# Altium schematic symbol library RPSLib_Connectors.SchLib: 97 symbols (part 2 of 2)
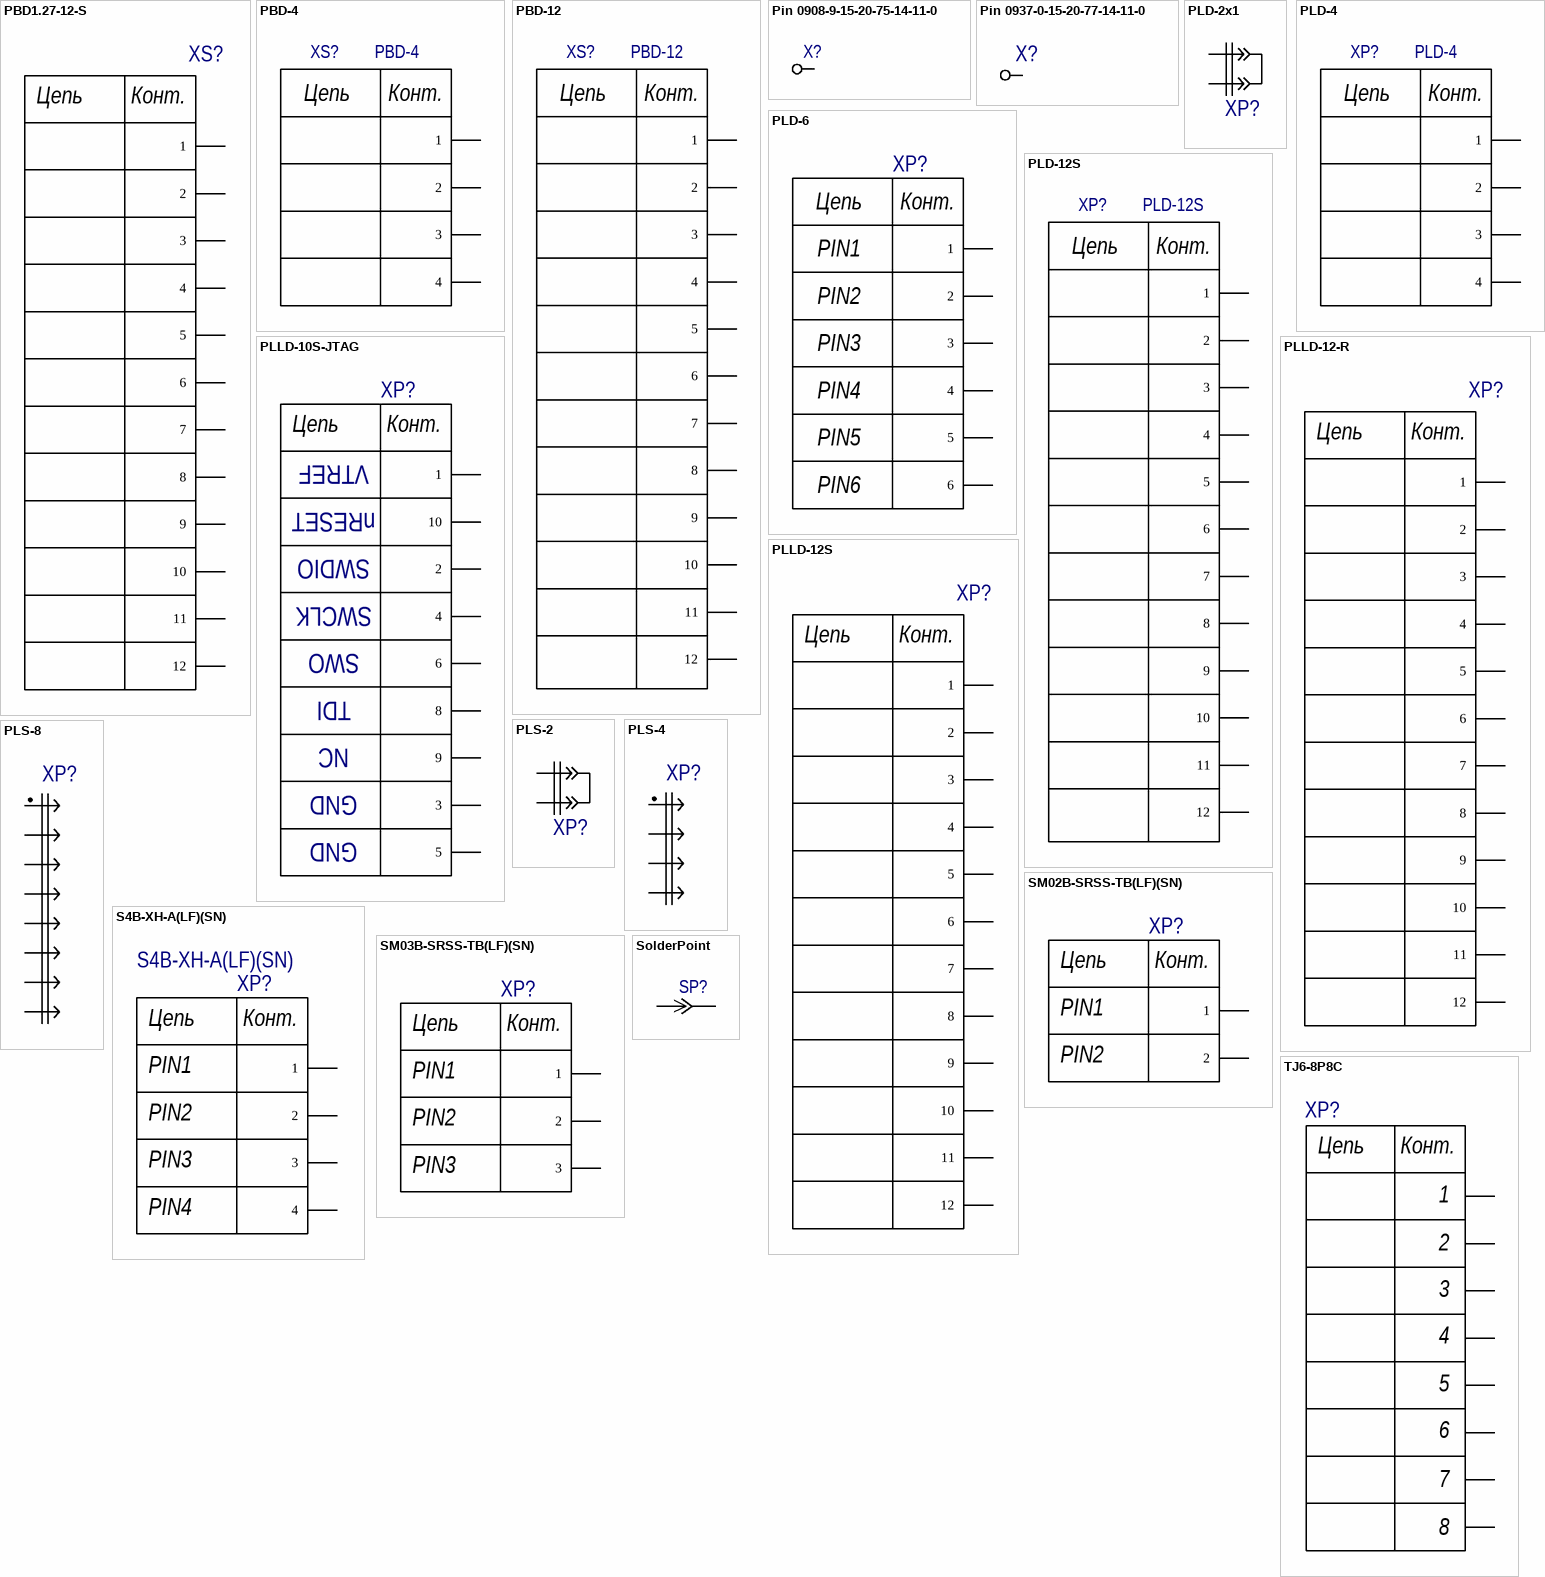
[diagram p9: symbols PBD1.27-12-S to TJ6-8P8C]

## PBD-12
designator XS?
Розетка двухрядная прямые (гнездо) на плату для монтажа в отверстия, 12 контактов шаг 2,54x2,54 мм; Manufacturer Part Number: 2214S-12G-85
footprint PBD-12 (Розетка двухрядная)
pins: 1, 2, 3, 4, 5, 6, 7, 8, 9, 10, 11, 12
text: Цепь; Конт.

## Pin 0908-9-15-20-75-14-11-0
designator X?, comment 0908-9-15-20-75-14-11-0  (value not drawn)
CONTACT SPRING LOADED T/H GOLD; Manufacturer: Mill-Max; Current Rating: 2A; Supplier 1: Digi-Key; Manufacturer Part Number: 0908-9-15-20-75-14-11-0; RoHS: Yes; Category: Connectors; Stock 1: 7880; Pricing 1: 1=0,75000, 10=0,69900, 25=0,62920, 50=0,55940, 100=0,53610, 250=0,48952, 500=0,46620, 1000=0,38462, 2500=0,34965 (USD); Mount: Through Hole; Contact Material: Brass; Material: Copper Alloy; Plating: Gold; Packaging: Bulk; Package Quantity: 500; Length: 0.43inch; Height: 0.43inch; Lead Free: Contains Lead; REACH SVHC: No SVHC; ComponentLink1URL: https://datasheet.ciiva.com/5160/0908-9-15-20-75-14-11-0-25951-5160756.pdf?src-supplier=Mouser; ComponentLink1Description: https://datasheet.ciiva.com/5160/0908-9-15-20-75-14-11-0-25951-5160756.pdf?src-supplier=Mouser; ComponentLink2URL: https://datasheet.ciiva.com/1351/1734701-1351212.pdf?src-supplier=Element14; ComponentLink2Description: https://datasheet.ciiva.com/1351/1734701-1351212.pdf?src-supplier=Element14; Supplier Part Number 1: ED90392-ND
footprint Mill Max 0908-X-15-50 (Mill Max Long stroke, Hole mount)
pins: 1

## Pin 0937-0-15-20-77-14-11-0
designator X?, comment Mill Max Spring loaded  (value not drawn)
Manufacturer: Mill-Max; Manufacturer Part Number: 0937-0-15-20-77-14-11-0; РКД Наименование: 0937-0-15-20-77-14-11-0 - Пружинный контакт; Supplier 1: Digi-Key; Stock 1: 716; Pricing 1: 1=0.96, 10=0.845, 25=0.7948, 50=0.7618, 100=0.7286, 250=0.6624, 500=0.59616, 1000=0.52992, 2500=0.48024 (USD); Supplier Part Number 1: ED10176-ND
footprint Mill Max 0937 (Mill Max Long stroke, Surface mount)
pins: 1

## PLD-2x1
designator XP?, comment Jumper  (value not drawn)
Jumper 2x1 pins, PLD2x1; Manufacturer: China; Manufacturer Part Number: *; Supplier 1: *; Supplier Part Number 1: *
footprint PLD 2X1
pins: 1, 2

## PLD-4
designator XP?
Вилка открытые прямые двухрядные на плату для поверхностного (SMD) монтажа, 4 контакта шаг 2,54x2,54 мм; Manufacturer Part Number: 2213SM-04G-6036
footprint PLD-4S (Footprint not found)
pins: 1, 2, 3, 4
text: Цепь; Конт.

## PLD-6
designator XP?  (value not drawn)
footprint PLD 2X3
pins: 1, 2, 3, 4, 5, 6
text: Цепь; Конт.; PIN1; PIN2; PIN3; PIN4; PIN5; PIN6

## PLD-12S
designator XP?
Вилка открытые прямые двухрядные на плату для поверхностного (SMD) монтажа, 12 контактов шаг 2,54x2,54 мм; Manufacturer Part Number: 2213SM-12G-6036
footprint PLD-12S (2.54 мм разъем SMD)
pins: 1, 2, 3, 4, 5, 6, 7, 8, 9, 10, 11, 12
text: Цепь; Конт.

## PLLD-10S-JTAG
designator XP?
2x5 штырьков 1,27 мм, SMD, 9-pin JTAG; Manufacturer: *; Manufacturer Part Number: *; Supplier 1: *; Supplier Part Number 1: *
footprint PLLD-10S-JTAG
pins: 1, 2, 3, 4, 5, 6, 8, 9, 10
text: Цепь; Конт.; VTREF; nRESET; SWDIO; SWCLK; SWO; TDI; NC; GND

## PLLD-12-R
designator XP?
2x6 штырьков 1,27 мм правые; Manufacturer: *; Manufacturer Part Number: *; Supplier 1: *; Supplier Part Number 1: *
footprint PLLD-12-R
pins: 1, 2, 3, 4, 5, 6, 7, 8, 9, 10, 11, 12
text: Цепь; Конт.

## PLLD-12S
designator XP?
2x6 штырьков 1,27 мм, SMD; Manufacturer: *; Manufacturer Part Number: *; Supplier 1: *; Supplier Part Number 1: *
footprint PLLD-12S
pins: 1, 2, 3, 4, 5, 6, 7, 8, 9, 10, 11, 12
text: Цепь; Конт.

## PLS-2
designator XP?, comment Jumper  (value not drawn)
Jumper 2x1 pins, PLS-2; Manufacturer: China; Manufacturer Part Number: PLS-02; Supplier 1: *; Supplier Part Number 1: *
footprint PLD 2X1
pins: 1, 2

## PLS-4
designator XP?  (value not drawn)
4 прямых штырька 2,54 мм; Manufacturer: China; Manufacturer Part Number: PLS-04; Supplier 1: *; Supplier Part Number 1: *
footprint PLD 4X1 (1x4 Male Header Through Hole Pitch 2.54 mm)
pins: 1, 2, 3, 4

## PLS-8
designator XP?  (value not drawn)
8 прямых штырьков 2,54 мм; Manufacturer: China; Manufacturer Part Number: PLS-08; Supplier 1: *; Supplier Part Number 1: *
footprint PLD 8X1 (1x8 Male Header Through Hole Pitch 2.54 mm)
pins: 1, 2, 3, 4, 5, 6, 7, 8

## S4B-XH-A(LF)(SN)
designator XP?
CONN HEADER R/A 4POS 2.5MM; Manufacturer: JST; Current Rating: 3A; Voltage Rating: 250V; Contact Resistance: 20mR; Number of Positions: 4; Insulation Resistance: 1GR; Gender: Male; Connector Type: Male Pin; Wire/Cable Gauge: 22AWG; Supplier 1: Digi-Key; Manufacturer Part Number: S4B-XH-A(LF)(SN); RoHS: Yes; Category: Headers and Wire Housings; Stock 1: 9755; Pricing 1: 1=0,27000, 10=0,25700, 100=0,17850, 500=0,15100, 1000=0,12355, 5000=0,10982, 10000=0,09953 (USD); Mount: Through Hole; Contact Material: Brass; Color: Natural; Contact Plating: Tin,Lead,Copper; Housing Color: White; Housing Material: Polyamide; Min Operating Temperature: -25°C; Max Operating Temperature: 85°C; Package Quantity: 500; Number of Rows: 1; Packaging: Bulk; Voltage Rating (AC): 250V; Max Current Rating: 3A; Termination: Press-Fit; Number of Contacts: 4; Max Voltage Rating (AC): 250V; Orientation: Right Angle; Length: 12.4mm; Pitch: 2.5mm; Lead Pitch: 2.5mm; Depth: 11.5mm; REACH SVHC: No SVHC; Lead Free: Lead Free; ComponentLink1URL: https://datasheet.ciiva.com/726/exh-726400.pdf?src-supplier=Digi-Key; ComponentLink1Description: https://datasheet.ciiva.com/726/exh-726400.pdf?src-supplier=Digi-Key; ComponentLink2URL: https://datasheet.ciiva.com/26924/getdatasheetpartid-449045-26924078.pdf?src-supplier=Verical; ComponentLink2Description: https://datasheet.ciiva.com/26924/getdatasheetpartid-449045-26924078.pdf?src-supplier=Verical; ComponentLink3URL: https://datasheet.ciiva.com/8052/5448-8052236.pdf?src-supplier=Element14; ComponentLink3Description: https://datasheet.ciiva.com/8052/5448-8052236.pdf?src-supplier=Element14; Supplier Part Number 1: 455-2243-ND
pins: 1, 2, 3, 4
text: Цепь; Конт.; PIN1; PIN2; PIN3; PIN4

## SM02B-SRSS-TB(LF)(SN)
designator XP?  (value not drawn)
CONN HEADER SMD R/A 2POS 1MM; Manufacturer: JST; Number of Contacts: 2; Current Rating: 1A; Connector Type: Male Pin; Contact Resistance: 40mR; Voltage Rating (AC): 50V; Insulation Resistance: 100MR; Pitch: 0.039inch; ComponentLink1URL: https://datasheet.ciiva.com/26924/getdatasheetpartid-640850-26924055.pdf?src-supplier=Verical; ComponentLink1Description: https://datasheet.ciiva.com/26924/getdatasheetpartid-640850-26924055.pdf?src-supplier=Verical; ComponentLink2URL: https://datasheet.ciiva.com/712/esr-712467.pdf?src-supplier=Digi-Key; ComponentLink2Description: https://datasheet.ciiva.com/712/esr-712467.pdf?src-supplier=Digi-Key; ComponentLink3URL: https://datasheet.ciiva.com/712/esr-712468.pdf?src-supplier=Digi-Key; ComponentLink3Description: https://datasheet.ciiva.com/712/esr-712468.pdf?src-supplier=Digi-Key; ComponentLink4URL: https://datasheet.ciiva.com/730/esr-730600.pdf?src-supplier=Digi-Key; ComponentLink4Description: https://datasheet.ciiva.com/730/esr-730600.pdf?src-supplier=Digi-Key; ComponentLink5URL: https://datasheet.ciiva.com/8052/91630-8052284.pdf?src-supplier=Element14; ComponentLink5Description: https://datasheet.ciiva.com/8052/91630-8052284.pdf?src-supplier=Element14; ComponentLink6URL: https://datasheet.ciiva.com/16391/sm02b-srss-tblfsn-16391308.pdf?src-supplier=Future+Electronics; ComponentLink6Description: https://datasheet.ciiva.com/16391/sm02b-srss-tblfsn-16391308.pdf?src-supplier=Future+Electronics; Supplier 1: Digi-Key; Manufacturer Part Number: SM02B-SRSS-TB(LF)(SN); Stock 1: 130790; Pricing 1: 1=0,440000, 10=0,415000, 100=0,318500, 500=0,277000, 1000=0,228520 (USD); RoHS: Yes; Mount: Surface Mount; Contact Material: Copper Alloy,Copper; Color: Natural; Contact Plating: Tin,Copper,Lead; Housing Color: Beige; Housing Material: Polyamide; Material: Polyamide; Min Operating Temperature: -25°C; Max Operating Temperature: 85°C; Number of Rows: 1; Termination: Solder; Orientation: Right Angle; Packaging: Tape and Reel; Number of Positions: 2; Max Current Rating: 1A; Max Voltage Rating (AC): 50V; Length: 4mm; Lead Pitch: 1mm; Depth: 4.95mm; Lead Free: Lead Free; REACH SVHC: No SVHC; Flammability Rating: UL94 V-0; Supplier Part Number 1: 455-1802-1-ND
footprint SM02B-SRSS-TB(LF)(SN) (JST 1.0 mm pitch connector)
pins: 1, 2
text: Цепь; Конт.; PIN1; PIN2

## SM03B-SRSS-TB(LF)(SN)
designator XP?  (value not drawn)
JST (JAPAN SOLDERLESS TERMINALS) - SM03B-SRSS-TB(LF)(SN) - EMBASE COUDEE 3 VOIES; Number of Positions: 3; Connector Type: Male Pin; Current Rating: 1A; Contact Resistance: 40mR; Voltage Rating (AC): 50V; Insulation Resistance: 100MR; Gender: Male; Pitch: 0.039inch; Supplier 1: Digi-Key; Manufacturer: JST; Manufacturer Part Number: SM03B-SRSS-TB(LF)(SN); Stock 1: 141871; Pricing 1: 1=0,530000, 10=0,494000, 100=0,379000, 500=0,329600, 1000=0,271920 (USD); RoHS: Yes; Mount: Surface Mount; Contact Plating: Tin,Lead,Copper; Contact Material: Copper Alloy,Copper; Color: Natural; Housing Color: Beige; Housing Material: Polyamide; Material: Polyamide; Min Operating Temperature: -25°C; Max Operating Temperature: 85°C; Number of Rows: 1; Termination: Solder; Packaging: Tape and Reel; Number of Contacts: 3; Orientation: Right Angle; Max Current Rating: 1A; Max Voltage Rating (AC): 50V; Length: 5mm; Lead Pitch: 1mm; Depth: 4.95mm; Lead Free: Lead Free; REACH SVHC: No SVHC; Flammability Rating: UL94 V-0; ComponentLink1URL: https://datasheet.ciiva.com/26894/getdatasheetpartid-708885-26894671.pdf?src-supplier=Verical; ComponentLink1Description: https://datasheet.ciiva.com/26894/getdatasheetpartid-708885-26894671.pdf?src-supplier=Verical; ComponentLink2URL: https://datasheet.ciiva.com/16394/sm03b-srss-tblfsn-16394332.pdf?src-supplier=Future+Electronics; ComponentLink2Description: https://datasheet.ciiva.com/16394/sm03b-srss-tblfsn-16394332.pdf?src-supplier=Future+Electronics; ComponentLink3URL: https://datasheet.ciiva.com/8052/91630-8052263.pdf?src-supplier=Element14; ComponentLink3Description: https://datasheet.ciiva.com/8052/91630-8052263.pdf?src-supplier=Element14; Supplier Part Number 1: 455-1803-1-ND
footprint SM03B-SRSS-TB(LF)(SN) (JST 1.0 mm pitch connector)
pins: 1, 2, 3
text: Цепь; Конт.; PIN1; PIN2; PIN3

## SolderPoint
designator SP?  (value not drawn)  (no BOM)
footprint Solder Point (Перемычка паямая)
pins: 1, 2

## TJ6-8P8C
designator XP?  (value not drawn)
Ethernet connector TJ6-8P8C; Value: *; Name: TJ6-8P8C; PartNo: TJ6-8P8C
footprint TJ6-8P8C
pins: 1, 2, 3, 4, 5, 6, 7, 8, 9 hidden, 10 hidden
text: Цепь; Конт.

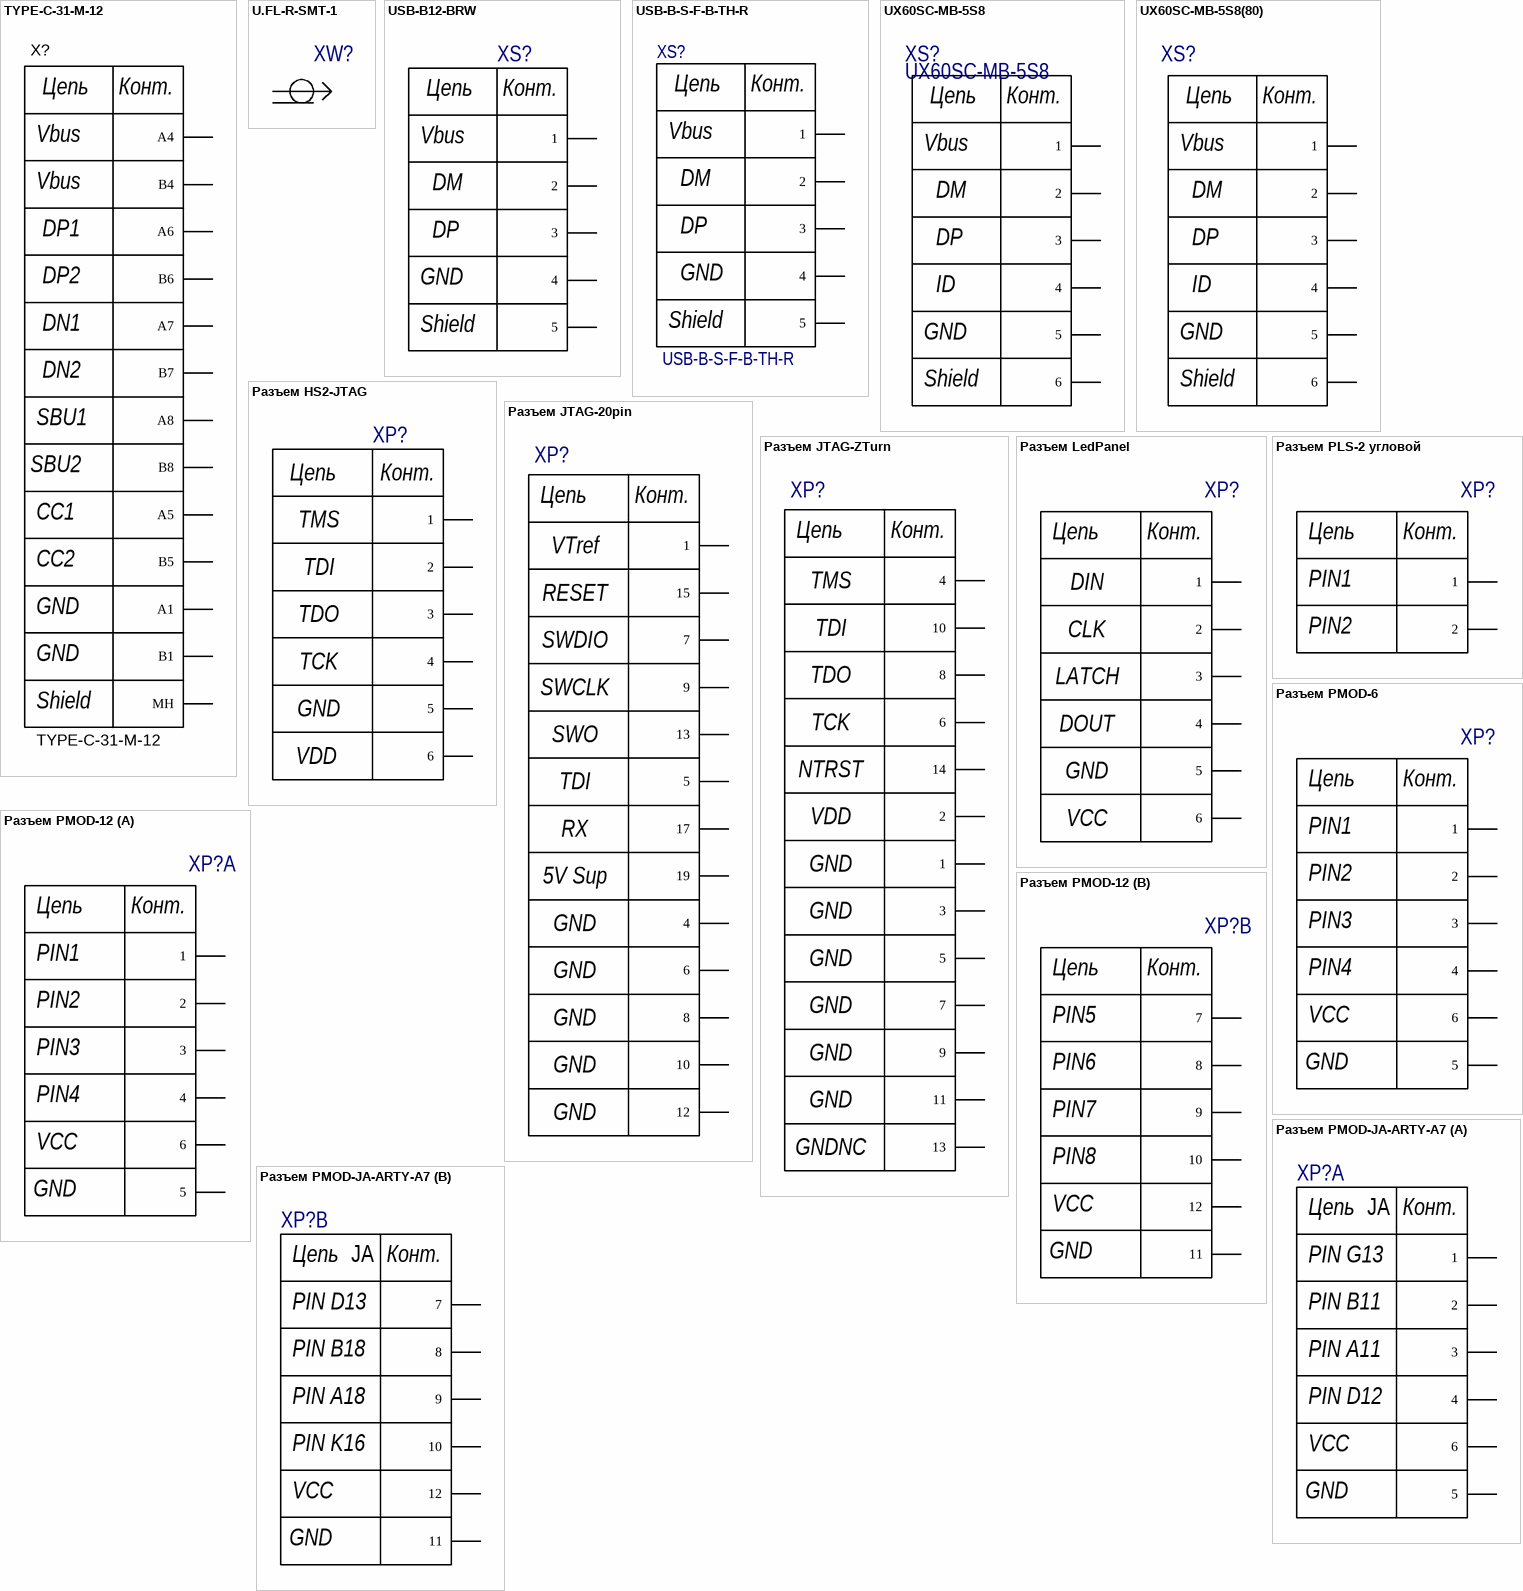
[diagram p3: symbols TYPE-C-31-M-12 to Разъем PMOD-JA-ARTY-A7]

## TYPE-C-31-M-12
designator X?
USB 3.1, Type C, 16 pins, 20V, 3A, -40...+85°C; Manufacturer: Korean Hroparts Elec; Manufacturer Part Number: TYPE-C-31-M-12; Package: Type C; HelpURL: https://www.lcsc.com/product-detail/USB-Connectors_Korean-Hroparts-Elec-TYPE-C-31-M-12_C165948.html
footprint TYPE-C-31-M-12 (USB)
pins: A1, A4, A5, A6, A7, A8, B1, B4, B5, B6, B7, B8, MH
text: Цепь; Конт.; Vbus; DP1; DP2; DN1; DN2; SBU1; SBU2; CC1; CC2; GND; Shield

## U.FL-R-SMT-1
designator XW?  (value not drawn)
CONN UMC JACK STR 50 OHM SMD; Manufacturer: Hirose; Manufacturer Part Number: U.FL-R-SMT-1(10); Body Plating: Silver; Body Material: Bronze; Dielectric Material: Polymer; Impedance: 50R; Connector Type: Coaxial,Male Pin,Receptacle; Frequency: 6GHz; Gender: Male; Wire/Cable Type: Coaxial; Insulation Resistance: 500MR; Supplier 1: Digi-Key; Stock 1: 677500; Pricing 1: 2500=0.5945 (USD); Mount: PCB,Surface Mount,Through Hole; Contact Material: Brass,Bronze; Contact Plating: Gold; Housing Colour: Beige; Min Operating Temperature: -40°C; Max Operating Temperature: 90°C; Packaging: Tape and Reel; Termination: Solder; Orientation: Straight; Package Quantity: 2500; Fastening Type: Snap; Max Frequency: 6GHz; Length: 3mm; Depth: 3.1mm; Radiation Hardening: No; Lead Free: Lead Free; REACH SVHC: No SVHC; Supplier Part Number 1: H11891TR-ND; РКД Наименование: *
footprint U.FL-R-SMT-1 (U.FL SMD connector)
pins: 1, 2
1 alternate drawing of the same symbol

## USB-B12-BRW
designator XS?  (value not drawn)
1.5A USB 2.0 1 260℃ Straight 4 Female -20℃~+70℃ Type-B Plugin,19.25x12.04x11mm USB Connectors ROHS; Manufacturer: XUNPU; Gender: Receptacle; Connector Type: Receptacle,USB; Number of Contacts: 4; Number of Ports: 1; Max Voltage Rating (AC): 30V; Current Rating: 1.8A; USB Standard: USB 2.0; Pitch: 0.65mm; Supplier 1: LCSC; Manufacturer Part Number: USB-B12-BRW; Stock 1: *; Pricing 1: *; Mount: Surface Mount,Through Hole,Vertical; Contact Material: Copper Alloy; Contact Plating: *; Colour: Black; Number of Terminals: 4; Housing Material: Thermoplastic; Min Operating Temperature: -30°C; Max Operating Temperature: 85°C; Package Quantity: 500; Termination: Solder; Orientation: Right Angle; Packaging: Tape and Reel; Voltage Rating (AC): 30V; Features: Shielded; Radiation Hardening: No; REACH SVHC: Unknown; Flammability Rating: UL94 V-0; Supplier Part Number 1: C720550; РКД Наименование: *
footprint USB-B12-BRW (USB-B Vertical connector)
pins: 1, 2, 3, 4, 5
text: Цепь; Конт.; Vbus; DM; DP; GND; Shield

## USB-B-S-F-B-TH-R
designator XS?
Conn USB F 4 POS 2.5mm Solder RA Thru-Hole 4 Terminal 1 Port Tray; Manufacturer: Samtec; Number of Terminals/Pins: 4; Gender: Receptacle; Number of Ports: 1; Max Voltage Rating (AC): 30V; Supplier 1: Digi-Key; Manufacturer Part Number: USB-B-S-F-B-TH-R; RoHS: Yes; Category: Connectors; Mount: Through Hole,Horizontal; Contact Material: Bronze; Contact Plating: Gold; Housing Material: Thermoplastic; Min Operating Temperature: -50°C; Max Operating Temperature: 85°C; Termination: Solder; Orientation: Right Angle; Packaging: Tray; Package Quantity: 1; Connector Type: USB; Number of Contacts: 4; Series: USB-B; Length: 14.9mm; Pitch: 2.5mm; Depth: 16.2mm; Radiation Hardening: No; Lead Free: Lead Free; RoHS Compliant: Yes; ComponentLink1URL: https://datasheet.ciiva.com/3095/usb-b-3095456.pdf?src-supplier=Avnet; ComponentLink1Description: https://datasheet.ciiva.com/3095/usb-b-3095456.pdf?src-supplier=Avnet; ComponentLink2URL: https://datasheet.ciiva.com/851/usb-b-851750.pdf?src-supplier=Digi-Key; ComponentLink2Description: https://datasheet.ciiva.com/851/usb-b-851750.pdf?src-supplier=Digi-Key; Supplier Part Number 1: USB-B-S-F-B-TH-R-ND
footprint Samtech USB-B
pins: 1, 2, 3, 4, 5
text: Цепь; Конт.; Vbus; DM; DP; GND; Shield

## UX60SC-MB-5S8
designator XS?
USB - mini B USB 2.0 Receptacle Connector 5 Position Surface Mount, Right Angle; Through Hole; Manufacturer: Hirose; Connector Type: USB,Receptacle; Number of Contacts: 5; Current Rating: 1A; Number of Ports: 1; Insulation Resistance: 100MR; Max Voltage Rating (AC): 5V; USB Standard: USB 2.0; Pitch: 0.8mm; Supplier 1: Digi-Key; Supplier Part Number 1: H11589CT-ND; Manufacturer Part Number: UX60SC-MB-5S8; Stock 1: 16038; Pricing 1: 1=1.05, 10=0.926, 25=0.8712, 50=0.835, 100=0.7986, 250=0.726, 500=0.6534 (USD); Mount: Surface Mount,Horizontal,Through Hole; Contact Material: Copper Alloy,Copper; Contact Plating: Gold; Number of Terminals: 5; Min Operating Temperature: -30°C; Max Operating Temperature: 75°C; Package Quantity: 1000; Packaging: Tape and Reel; Gender: Receptacle; Termination: Solder; Orientation: Right Angle; Number of Rows: 1; Max Current Rating: 1A; Number of Positions: 5; Length: 7.7mm; Depth: 7mm; REACH SVHC: No SVHC; Lead Free: Lead Free; ComponentLink1URL: http://www.farnell.com/datasheets/2043912.pdf?src-supplier=Element14; ComponentLink1Description: http://www.farnell.com/datasheets/2043912.pdf?src-supplier=Element14; ComponentLink2URL: http://www.mouser.com/ds/2/185/UX_catalog-939708.pdf?src-supplier=Mouser; ComponentLink2Description: http://www.mouser.com/ds/2/185/UX_catalog-939708.pdf?src-supplier=Mouser; ComponentLink3URL: https://www.verical.com/server-webapp/html/getDatasheet?partID=457316&src-supplier=Verical; ComponentLink3Description: https://www.verical.com/server-webapp/html/getDatasheet?partID=457316&src-supplier=Verical
pins: 1, 2, 3, 4, 5, 6
text: Цепь; Конт.; Vbus; DM; DP; ID; GND; Shield

## UX60SC-MB-5S8(80)
designator XS?  (value not drawn)
USB - mini B USB 2.0 Receptacle Connector 5 Position Surface Mount, Right Angle; Through Hole; Manufacturer: Hirose; Voltage Rating: 30V; Current Rating: 1A; Number of Contacts: 5; Supplier 1: Digi-Key; Supplier Part Number 1: H125762CT-ND; Manufacturer Part Number: UX60SC-MB-5S8(80); Stock 1: 4220; Pricing 1: 1=0.8, 10=0.701, 25=0.66, 50=0.6326, 100=0.605, 250=0.55, 500=0.495 (USD); Mount: Surface Mount,Horizontal,Through Hole; Contact Material: Copper Alloy; Min Operating Temperature: -30°C; Max Operating Temperature: 75°C; Package Quantity: 1000; Packaging: Tape and Reel; Gender: Receptacle; Connector Type: USB; Termination: Solder; Orientation: Right Angle; ComponentLink1URL: https://media.digikey.com/pdf/Data%20Sheets/Hirose%20PDFs/UX60S.pdf?src-supplier=Digi-Key; ComponentLink1Description: https://media.digikey.com/pdf/Data%20Sheets/Hirose%20PDFs/UX60S.pdf?src-supplier=Digi-Key
footprint UX60SC-MB-5S8(80)
pins: 1, 2, 3, 4, 5, 6
1 alternate drawing of the same symbol
text: Цепь; Конт.; Vbus; DM; DP; ID; GND; Shield

## Разъем HS2-JTAG
designator XP?
Digilent PMOD разъем. 1 ряд, 6 контактов; Manufacturer: *; Manufacturer Part Number: *
footprint PMOD-6 (Digilent PMOD connector 6 pin)
pins: 1, 2, 3, 4, 5, 6
text: Цепь; Конт.; TMS; TDI; TDO; TCK; GND; VDD

## Разъем JTAG-20pin
designator XP?
Разъем Segger JTAG; Max Current Rating: 3A; Number of Positions: 20; Max Voltage Rating (AC): 50V; Pitch: 0.100inch; Supplier 1: Digi-Key; Min Operating Temperature: -25°C; Max Operating Temperature: 85°C; Number of Rows: 2
footprint IDC-20 (2.54 мм разъем)
footprint IDC-20 Right angle (2.54 мм разъем правый)
footprint PBD-20 Right angle (2.54 мм разъем правый)
pins: 1 (power), 4 (power), 5, 6, 7, 8, 9, 10, 12, 13, 15, 17, 19
text: Цепь; Конт.; VTref; RESET; SWDIO; SWCLK; SWO; TDI; RX; 5V Sup; GND

## Разъем JTAG-ZTurn
designator XP?
Разъем для печатающей головы; Max Current Rating: 3A; Number of Positions: 20; Max Voltage Rating (AC): 50V; Pitch: 0.100inch; Supplier 1: Digi-Key; Min Operating Temperature: -25°C; Max Operating Temperature: 85°C; Number of Rows: 2
footprint IDC-14 (2.54 мм разъем)
pins: 1, 2, 3, 4 (power), 5, 6, 7, 8, 9, 10 (power), 11 (power), 13 (power), 14
text: Цепь; Конт.; TMS; TDI; TDO; TCK; NTRST; VDD; GND; GNDNC

## Разъем LedPanel
designator XP?, comment BM06B-SRSS-TB(LF)(SN)  (value not drawn)
1 mm Pitch 6 Position SMT Single Row Top Entry Shrouded Header; Manufacturer: JST; Number of Positions: 6; Connector Type: Male Pin; Contact Resistance: 20mR; Current Rating: 1A; Voltage Rating (AC): 50V; Insulation Resistance: 100MR; Gender: Male; Pitch: 0.039inch; Supplier 1: Digi-Key; Manufacturer Part Number: BM06B-SRSS-TB(LF)(SN); RoHS: Yes; Category: Connectors; Stock 1: 15679; Pricing 1: 1=0,76000, 10=0,67200, 100=0,57970, 500=0,47428 (USD); Mount: Surface Mount; Contact Plating: Tin,Lead; Contact Material: Copper Alloy; Color: Natural; Housing Color: Natural; Housing Material: Nylon; Material: Polyamide; Min Operating Temperature: -25°C; Max Operating Temperature: 85°C; Number of Rows: 1; Packaging: Tape and Reel; Termination: Solder; Number of Contacts: 6; Orientation: Straight; Voltage Rating: 50V; Lead Pitch: 1mm; Lead Free: Lead Free; REACH SVHC: No SVHC; Flammability Rating: UL94 V-0; ComponentLink1URL: https://datasheet.ciiva.com/11752/0900766b80849807-11752119.pdf?src-supplier=RSComponents; ComponentLink1Description: https://datasheet.ciiva.com/11752/0900766b80849807-11752119.pdf?src-supplier=RSComponents; ComponentLink2URL: https://datasheet.ciiva.com/8052/1393414-8052086.pdf?src-supplier=Element14; ComponentLink2Description: https://datasheet.ciiva.com/8052/1393414-8052086.pdf?src-supplier=Element14; ComponentLink3URL: https://datasheet.ciiva.com/712/esr-712587.pdf?src-supplier=Digi-Key; ComponentLink3Description: https://datasheet.ciiva.com/712/esr-712587.pdf?src-supplier=Digi-Key; ComponentLink4URL: https://datasheet.ciiva.com/712/esr-712588.pdf?src-supplier=Digi-Key; ComponentLink4Description: https://datasheet.ciiva.com/712/esr-712588.pdf?src-supplier=Digi-Key; ComponentLink5URL: https://datasheet.ciiva.com/730/esr-730652.pdf?src-supplier=Digi-Key; ComponentLink5Description: https://datasheet.ciiva.com/730/esr-730652.pdf?src-supplier=Digi-Key; ComponentLink6URL: https://datasheet.ciiva.com/16419/esr-16419212.pdf?src-supplier=Future+Electronics; ComponentLink6Description: https://datasheet.ciiva.com/16419/esr-16419212.pdf?src-supplier=Future+Electronics; Supplier Part Number 1: 455-1792-1-ND
footprint BM06B-SRSS-TB(LF)(SN) (JST 1.0 mm pitch connector)
pins: 1, 2, 3, 4, 5, 6
text: Цепь; Конт.; DIN; CLK; LATCH; DOUT; GND; VCC

## Разъем PLS-2 угловой
designator XP?
PLS разъем. 1 ряд, 2 контакта, угловой; Manufacturer: *; Manufacturer Part Number: *
footprint PLS-2 angle (Разъем PLS 2 контакта, угловой)
pins: 1, 2
text: Цепь; Конт.; PIN1; PIN2

## Разъем PMOD-6
designator XP?
Digilent PMOD разъем. 1 ряд, 6 контактов; Manufacturer: *; Manufacturer Part Number: *
footprint PMOD-6 (Digilent PMOD connector 6 pin)
pins: 1, 2, 3, 4, 5, 6
text: Цепь; Конт.; PIN1; PIN2; PIN3; PIN4; VCC; GND

## Разъем PMOD-12
designator XP?
Digilent PMOD разъем. 1 ряд, 6 контактов; Manufacturer: *; Manufacturer Part Number: *
footprint PMOD-12 (Digilent PMOD connector 12 pin)
part A pins: 1, 2, 3, 4, 5, 6
part B pins: 7, 8, 9, 10, 11, 12
part A text: Цепь; Конт.; PIN1; PIN2; PIN3; PIN4; VCC; GND
part B text: Цепь; Конт.; PIN5; PIN6; PIN7; PIN8; VCC; GND

## Разъем PMOD-JA-ARTY-A7
designator XP?
Digilent PMOD разъем. 1 ряд, 6 контактов; Manufacturer: *; Manufacturer Part Number: *
footprint PMOD-12 (Digilent PMOD connector 12 pin)
part A pins: 1, 2, 3, 4, 5, 6
part B pins: 7, 8, 9, 10, 11, 12
part A text: Цепь; JA; Конт.; PIN G13; PIN B11; PIN A11; PIN D12; VCC; GND
part B text: Цепь; JA; Конт.; PIN D13; PIN B18; PIN A18; PIN K16; VCC; GND

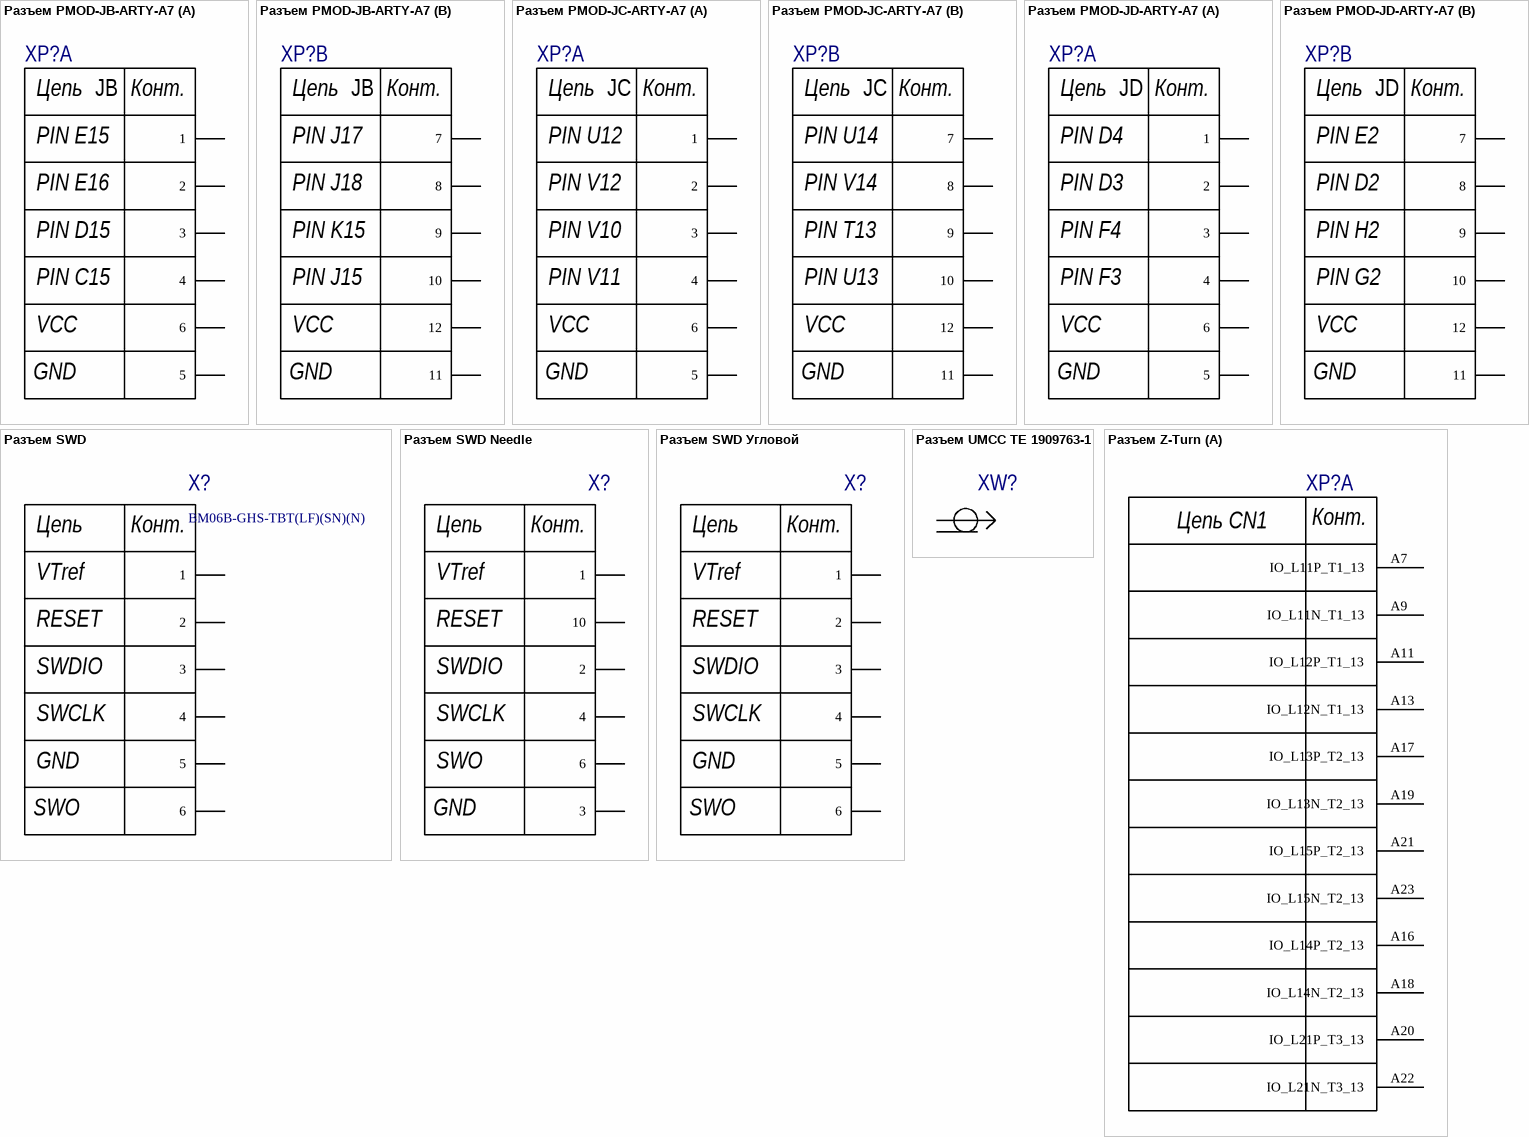
[diagram p4: symbols Разъем PMOD-JB-ARTY-A7 to Разъем Z-Turn]

## Разъем PMOD-JB-ARTY-A7
designator XP?
Digilent PMOD разъем. 1 ряд, 6 контактов; Manufacturer: *; Manufacturer Part Number: *
footprint PMOD-12 (Digilent PMOD connector 12 pin)
part A pins: 1, 2, 3, 4, 5, 6
part B pins: 7, 8, 9, 10, 11, 12
part A text: Цепь; JB; Конт.; PIN E15; PIN E16; PIN D15; PIN C15; VCC; GND
part B text: Цепь; JB; Конт.; PIN J17; PIN J18; PIN K15; PIN J15; VCC; GND

## Разъем PMOD-JC-ARTY-A7
designator XP?
Digilent PMOD разъем. 1 ряд, 6 контактов; Manufacturer: *; Manufacturer Part Number: *
footprint PMOD-12 (Digilent PMOD connector 12 pin)
part A pins: 1, 2, 3, 4, 5, 6
part B pins: 7, 8, 9, 10, 11, 12
part A text: Цепь; JC; Конт.; PIN U12; PIN V12; PIN V10; PIN V11; VCC; GND
part B text: Цепь; JC; Конт.; PIN U14; PIN V14; PIN T13; PIN U13; VCC; GND

## Разъем PMOD-JD-ARTY-A7
designator XP?
Digilent PMOD разъем. 1 ряд, 6 контактов; Manufacturer: *; Manufacturer Part Number: *
footprint PMOD-12 (Digilent PMOD connector 12 pin)
part A pins: 1, 2, 3, 4, 5, 6
part B pins: 7, 8, 9, 10, 11, 12
part A text: Цепь; JD; Конт.; PIN D4; PIN D3; PIN F4; PIN F3; VCC; GND
part B text: Цепь; JD; Конт.; PIN E2; PIN D2; PIN H2; PIN G2; VCC; GND

## Разъем SWD
designator X?, comment BM06B-GHS-TBT(LF)(SN)(N)
SWD отладка; Manufacturer: JST; Max Current Rating: 1A; Contact Resistance: 50mR; Number of Positions: 6; Max Voltage Rating (AC): 50V; Connector Type: Outer Shroud Contact; Pitch: 0.049inch; PartNo: BM06B-GHS-TBT(LF)(SN)(N); Supplier 1: Digi-Key; Supplier Part Number 1: 455-1582-1-ND; Manufacturer Part Number: BM06B-GHS-TBT(LF)(SN)(N); Stock 1: 44065; Pricing 1: 1=0.56, 10=0.524, 100=0.4019, 500=0.34948, 1000=0.28832 (USD); Mount: Surface Mount; Colour: Natural; Contact Plating: Copper,Tin; Contact Material: Bronze; Housing Colour: Beige; Housing Material: Polyamide; Min Operating Temperature: -25°C; Max Operating Temperature: 85°C; Number of Rows: 1; Fastening Type: Ramp; Packaging: Tape and Reel; Termination: Solder; Orientation: Straight; Length: 10.75mm; Depth: 4.25mm; Lead Free: Lead Free; ComponentLink1URL: http://www.jst-mfg.com/product/pdf/eng/eGH.pdf; ComponentLink1Description: http://www.jst-mfg.com/product/pdf/eng/eGH.pdf
footprint BM06B-GH
pins: 1, 2, 3, 4, 5, 6
text: Цепь; Конт.; VTref; RESET; SWDIO; SWCLK; GND; SWO

## Разъем SWD Needle
designator X?  (no BOM)
SWD отладка
footprint J-Link Needle 10 pin
footprint J-Link Needle 10 pin No mount
pins: 1, 2, 3, 4, 6, 10
text: Цепь; Конт.; VTref; RESET; SWDIO; SWCLK; SWO; GND

## Разъем SWD Угловой
designator X?
SWD отладка; Manufacturer: JST; Manufacturer Part Number: SM06B-GHS-TB(LF)(SN); Number of Positions: 6; Connector Type: Outer Shroud Contact; Current Rating: 1A; Voltage Rating: 50V; Contact Resistance: 50mR; Pitch: 1.25mm; Supplier 1: Digi-Key; Stock 1: 0; Mount: Surface Mount; Contact Plating: Copper,Tin; Colour: Natural; Contact Material: Bronze; Housing Colour: Beige; Housing Material: Polyamide; Min Operating Temperature: -25°C; Max Operating Temperature: 85°C; Number of Rows: 1; Packaging: Tape and Reel; Termination: Solder; Fastening Type: Ramp; Number of Contacts: 6; Orientation: Right Angle; Max Current Rating: 1A; Max Voltage Rating (AC): 50V; Length: 10.75mm; Depth: 4.05mm; Lead Free: Lead Free; Supplier Part Number 1: 455-1568-1-ND
footprint SM06B-GHS-TB
pins: 1, 2, 3, 4, 5, 6
text: Цепь; Конт.; VTref; RESET; SWDIO; SWCLK; GND; SWO

## Разъем UMCC TE 1909763-1
designator XW?, comment TE 1909763-1  (value not drawn)
Разъем UMCC, микрополосок; Manufacturer: TE Connectivity AMP; Body Material: Liquid Crystal Polymer,Polymer; Body Plating: Gold; Dielectric Material: Polymer; Impedance: 50R; Max Frequency: 6GHz; Connector Type: Jack; Gender: Female; Connector System: Cable-to-Board; Number of Positions: 1; Sealable: No (Without); РКД Наименование: 1909763-1 - UMCC разъем, TE Connectivity; Supplier 1: Digi-Key; Manufacturer Part Number: 1909763-1; Stock 1: 119207; Pricing 1: 1=0.5, 10=0.472, 100=0.3615, 500=0.3144, 1000=0.2594 (USD); Mount: Panel; Case/Package: SMD/SMT; Contact Plating: Gold; Contact Material: Copper Alloy; Housing Color: Beige; Insulation Material: Thermoplastic; Min Operating Temperature: -40°C; Max Operating Temperature: 194°C; Packaging: Tape and Reel; Package Quantity: 1; Fastening Type: Pull,Push; Termination: SMD/SMT; Orientation: Straight; Frequency: 6GHz; Length: 3mm; Radiation Hardening: No; ELV: Compliant; Lead Free: Lead Free; ComponentLink1URL: http://www.te.com/commerce/DocumentDelivery/DDEController?Action=showdoc&DocId=Customer+Drawing%7F1909763%7FB%7Fpdf%7FEnglish%7FENG_CD_1909763_B.pdf%7F1909763-1&src-supplier=Future+Electronics; ComponentLink1Description: http://www.te.com/commerce/DocumentDelivery/DDEController?Action=showdoc&DocId=Customer+Drawing%7F1909763%7FB%7Fpdf%7FEnglish%7FENG_CD_1909763_B.pdf%7F1909763-1&src-supplier=Future+Electronics; ComponentLink2URL: http://www.te.com/commerce/DocumentDelivery/DDEController?Action=showdoc&DocId=Customer+Drawing%7F1909763%7FB%7Fpdf%7FEnglish%7FENG_CD_1909763_B.pdf%7F1909763-1&src-supplier=Avnet+Asia; ComponentLink2Description: http://www.te.com/commerce/DocumentDelivery/DDEController?Action=showdoc&DocId=Customer+Drawing%7F1909763%7FB%7Fpdf%7FEnglish%7FENG_CD_1909763_B.pdf%7F1909763-1&src-supplier=Avnet+Asia; ComponentLink3URL: http://www.te.com/commerce/DocumentDelivery/DDEController?Action=showdoc&DocId=Customer+Drawing%7F1909763%7FB%7Fpdf%7FEnglish%7FENG_CD_1909763_B.pdf%7F1909763-1&src-supplier=Avnet; ComponentLink3Description: http://www.te.com/commerce/DocumentDelivery/DDEController?Action=showdoc&DocId=Customer+Drawing%7F1909763%7FB%7Fpdf%7FEnglish%7FENG_CD_1909763_B.pdf%7F1909763-1&src-supplier=Avnet; ComponentLink4URL: https://www.te.com/commerce/DocumentDelivery/DDEController?Action=srchrtrv&DocNm=1909763&DocType=Customer+Drawing&DocLang=English&src-supplier=Digi-Key; ComponentLink4Description: https://www.te.com/commerce/DocumentDelivery/DDEController?Action=srchrtrv&DocNm=1909763&DocType=Customer+Drawing&DocLang=English&src-supplier=Digi-Key; Supplier Part Number 1: A118077CT-ND
footprint UMCC TE 1909763-1
pins: 1, 2
1 alternate drawing of the same symbol

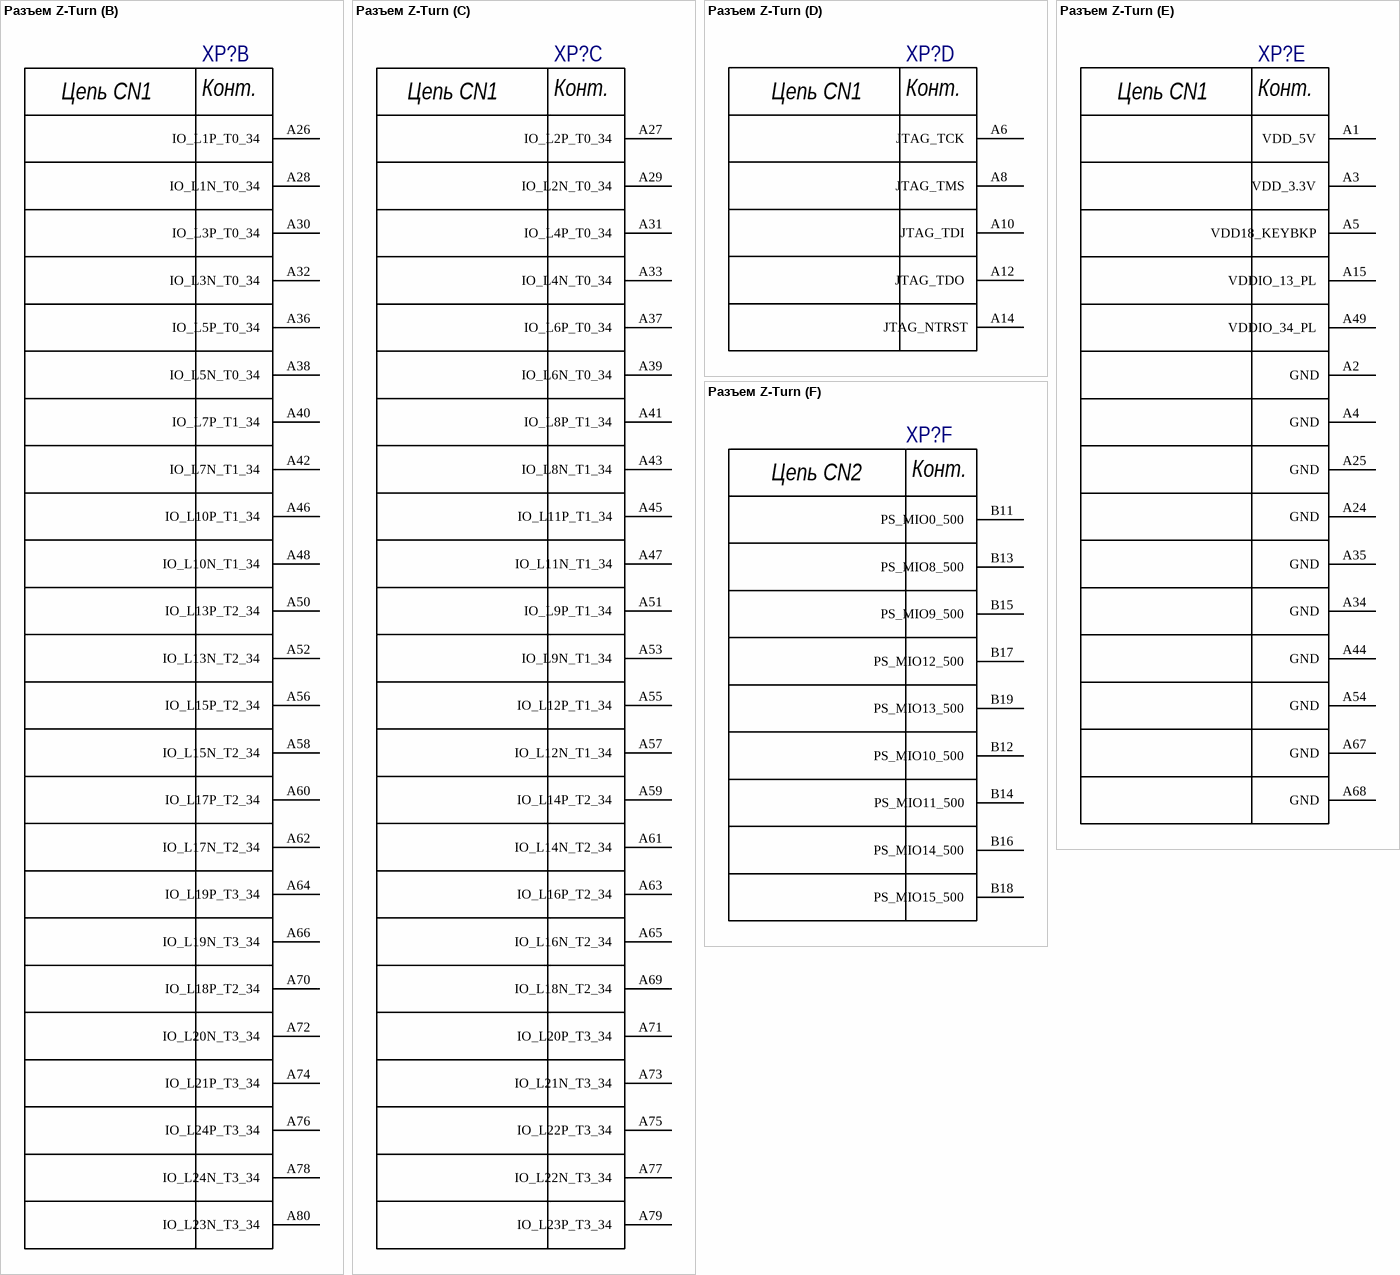
[diagram p5: symbol Разъем Z-Turn]

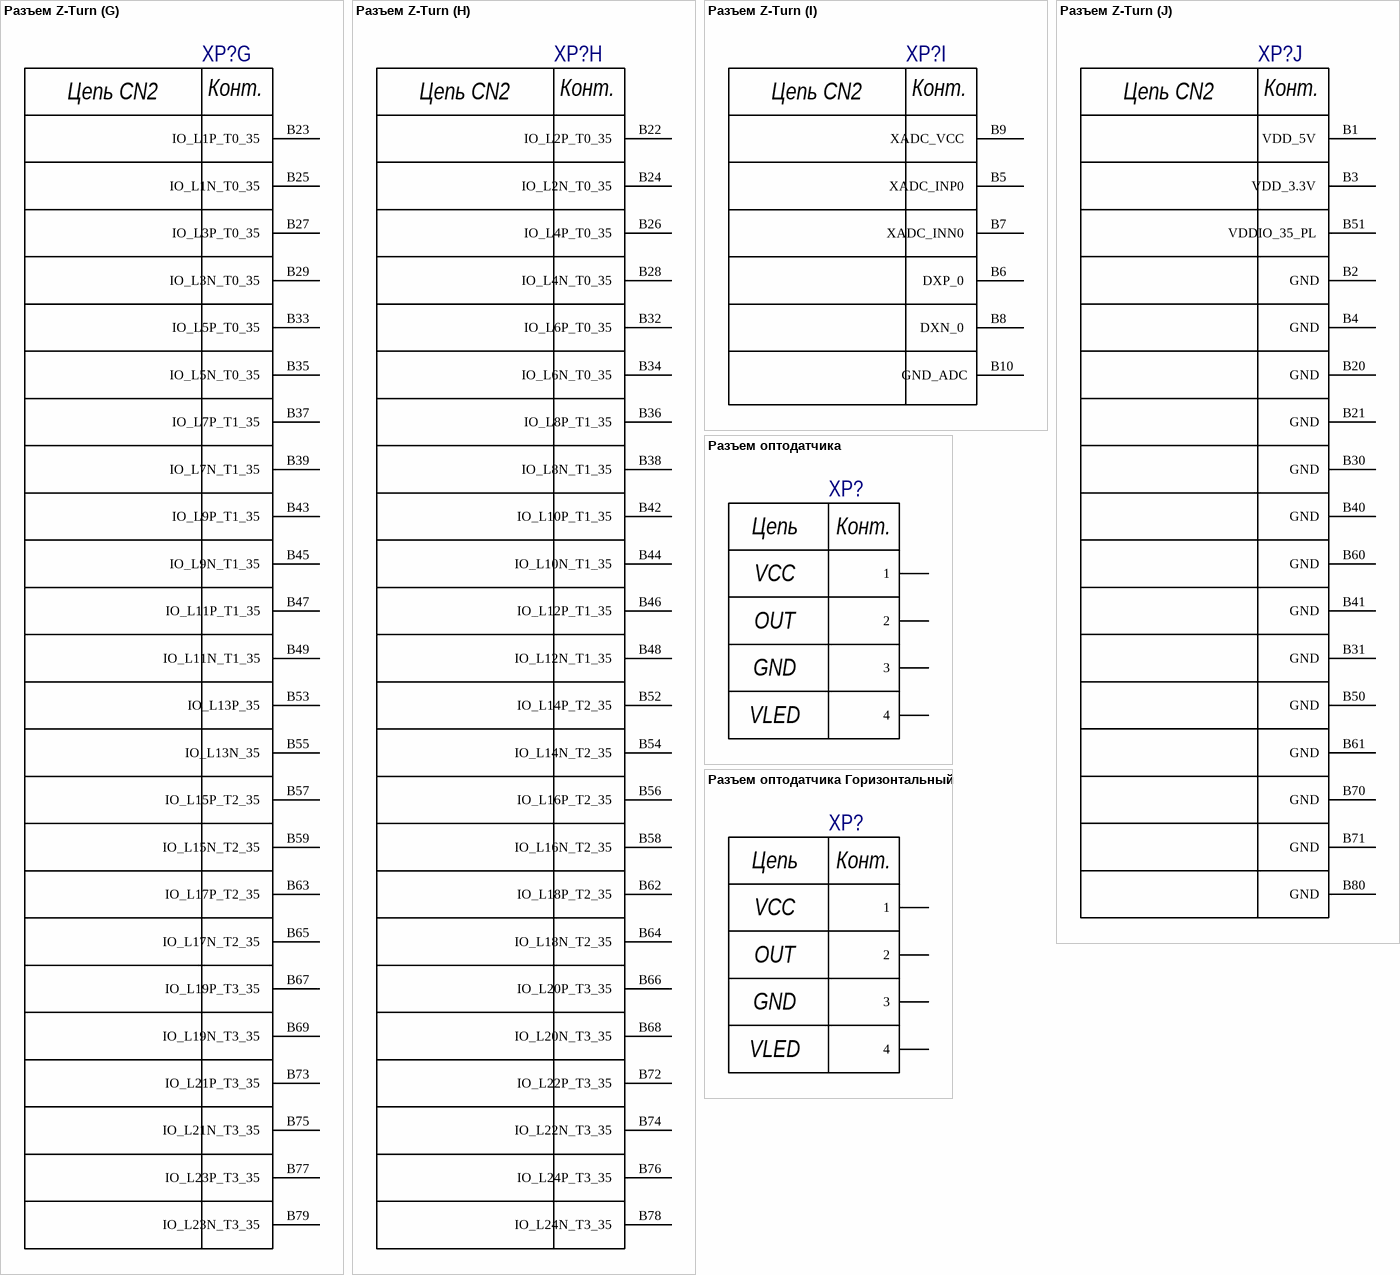
[diagram p6: symbols Разъем Z-Turn to Разъем оптодатчика Горизонтальный]

## Разъем Z-Turn
designator XP?
Разъем для платы Z-Turn, штыри 1,27 мм шаг; Manufacturer: *; Manufacturer Part Number: *
footprint ZTurn
part A pins: A7 IO_L11P_T1_13 , A9 IO_L11N_T1_13 , A11 IO_L12P_T1_13 , A13 IO_L12N_T1_13 , A16 IO_L14P_T2_13 , A17 IO_L13P_T2_13 , A18 IO_L14N_T2_13 , A19 IO_L13N_T2_13 , A20 IO_L21P_T3_13 , A21 IO_L15P_T2_13 , A22 IO_L21N_T3_13 , A23 IO_L15N_T2_13 
part B pins: A26 IO_L1P_T0_34 , A28 IO_L1N_T0_34 , A30 IO_L3P_T0_34 , A32 IO_L3N_T0_34 , A36 IO_L5P_T0_34 , A38 IO_L5N_T0_34 , A40 IO_L7P_T1_34 , A42 IO_L7N_T1_34 , A46 IO_L10P_T1_34 , A48 IO_L10N_T1_34 , A50 IO_L13P_T2_34 , A52 IO_L13N_T2_34 , A56 IO_L15P_T2_34 , A58 IO_L15N_T2_34 , A60 IO_L17P_T2_34 , A62 IO_L17N_T2_34 , A64 IO_L19P_T3_34 , A66 IO_L19N_T3_34 , A70 IO_L18P_T2_34 , A72 IO_L20N_T3_34 , A74 IO_L21P_T3_34 , A76 IO_L24P_T3_34 , A78 IO_L24N_T3_34 , A80 IO_L23N_T3_34 
part C pins: A27 IO_L2P_T0_34 , A29 IO_L2N_T0_34 , A31 IO_L4P_T0_34 , A33 IO_L4N_T0_34 , A37 IO_L6P_T0_34 , A39 IO_L6N_T0_34 , A41 IO_L8P_T1_34 , A43 IO_L8N_T1_34 , A45 IO_L11P_T1_34 , A47 IO_L11N_T1_34 , A51 IO_L9P_T1_34 , A53 IO_L9N_T1_34 , A55 IO_L12P_T1_34 , A57 IO_L12N_T1_34 , A59 IO_L14P_T2_34 , A61 IO_L14N_T2_34 , A63 IO_L16P_T2_34 , A65 IO_L16N_T2_34 , A69 IO_L18N_T2_34 , A71 IO_L20P_T3_34 , A73 IO_L21N_T3_34 , A75 IO_L22P_T3_34 , A77 IO_L22N_T3_34 , A79 IO_L23P_T3_34 
part D pins: A6 JTAG_TCK , A8 JTAG_TMS , A10 JTAG_TDI , A12 JTAG_TDO , A14 JTAG_NTRST
part E pins: A1 VDD_5V , A2 GND, A3 VDD_3.3V , A4 GND, A5 VDD18_KEYBKP , A15 VDDIO_13_PL , A24 GND, A25 GND, A34 GND, A35 GND, A44 GND, A49 VDDIO_34_PL , A54 GND, A67 GND, A68 GND
part F pins: B11 PS_MIO0_500 , B12 PS_MIO10_500 , B13 PS_MIO8_500 , B14 PS_MIO11_500 , B15 PS_MIO9_500 , B16 PS_MIO14_500 , B17 PS_MIO12_500 , B18 PS_MIO15_500 , B19 PS_MIO13_500 
part G pins: B23 IO_L1P_T0_35 , B25 IO_L1N_T0_35 , B27 IO_L3P_T0_35 , B29 IO_L3N_T0_35 , B33 IO_L5P_T0_35 , B35 IO_L5N_T0_35 , B37 IO_L7P_T1_35 , B39 IO_L7N_T1_35 , B43 IO_L9P_T1_35 , B45 IO_L9N_T1_35 , B47 IO_L11P_T1_35 , B49 IO_L11N_T1_35 , B53 IO_L13P_35 , B55 IO_L13N_35 , B57 IO_L15P_T2_35 , B59 IO_L15N_T2_35 , B63 IO_L17P_T2_35 , B65 IO_L17N_T2_35 , B67 IO_L19P_T3_35 , B69 IO_L19N_T3_35 , B73 IO_L21P_T3_35 , B75 IO_L21N_T3_35 , B77 IO_L23P_T3_35 , B79 IO_L23N_T3_35 
part H pins: B22 IO_L2P_T0_35 , B24 IO_L2N_T0_35 , B26 IO_L4P_T0_35 , B28 IO_L4N_T0_35 , B32 IO_L6P_T0_35 , B34 IO_L6N_T0_35 , B36 IO_L8P_T1_35 , B38 IO_L8N_T1_35 , B42 IO_L10P_T1_35 , B44 IO_L10N_T1_35 , B46 IO_L12P_T1_35 , B48 IO_L12N_T1_35 , B52 IO_L14P_T2_35 , B54 IO_L14N_T2_35 , B56 IO_L16P_T2_35 , B58 IO_L16N_T2_35 , B62 IO_L18P_T2_35 , B64 IO_L18N_T2_35 , B66 IO_L20P_T3_35 , B68 IO_L20N_T3_35 , B72 IO_L22P_T3_35 , B74 IO_L22N_T3_35 , B76 IO_L24P_T3_35 , B78 IO_L24N_T3_35 
part I pins: B5 XADC_INP0 , B6 DXP_0 , B7 XADC_INN0 , B8 DXN_0 , B9 XADC_VCC , B10 GND_ADC
part J pins: B1 VDD_5V , B2 GND, B3 VDD_3.3V , B4 GND, B20 GND, B21 GND, B30 GND, B31 GND, B40 GND, B41 GND, B50 GND, B51 VDDIO_35_PL , B60 GND, B61 GND, B70 GND, B71 GND, B80 GND
part A text: Цепь CN1; Конт.
part B text: Цепь CN1; Конт.
part C text: Цепь CN1; Конт.
part D text: Цепь CN1; Конт.
part E text: Цепь CN1; Конт.
part F text: Цепь CN2; Конт.
part G text: Цепь CN2; Конт.
part H text: Цепь CN2; Конт.
part I text: Цепь CN2; Конт.
part J text: Цепь CN2; Конт.

## Разъем оптодатчика
designator XP?, comment BM04B-SRSS-TB(LF)(SN)  (value not drawn)
CONN HEADER SMD 4POS 1MM; Manufacturer: JST; Number of Positions: 4; Connector Type: Male Pin; Current Rating: 1A; Contact Resistance: 40mR; Voltage Rating (AC): 50V; Insulation Resistance: 100MR; Gender: Male; Pitch: 0.039inch; Supplier 1: Digi-Key; Manufacturer Part Number: BM04B-SRSS-TB(LF)(SN); RoHS: Yes; Category: Connectors; Stock 1: 28453; Pricing 1: 1=0,63000, 10=0,59200, 100=0,45400, 500=0,39480 (USD); Mount: Surface Mount; Contact Plating: Tin,Lead,Copper; Contact Material: Copper Alloy; Color: Natural; Housing Color: Beige; Housing Material: Polyamide; Material: Polyamide; Min Operating Temperature: -25°C; Max Operating Temperature: 85°C; Number of Rows: 1; Termination: Solder; Packaging: Tape and Reel; Number of Contacts: 4; Orientation: Straight; Max Current Rating: 1A; Max Voltage Rating (AC): 50V; Max Voltage Rating (DC): 50V; Length: 6mm; Lead Pitch: 1mm; Depth: 2.9mm; Lead Free: Lead Free; REACH SVHC: No SVHC; Flammability Rating: UL94 V-0; ComponentLink1URL: https://datasheet.ciiva.com/26894/getdatasheetpartid-690899-26894827.pdf?src-supplier=Verical; ComponentLink1Description: https://datasheet.ciiva.com/26894/getdatasheetpartid-690899-26894827.pdf?src-supplier=Verical; ComponentLink2URL: https://datasheet.ciiva.com/26924/getdatasheetpartid-708793-26924043.pdf?src-supplier=Verical; ComponentLink2Description: https://datasheet.ciiva.com/26924/getdatasheetpartid-708793-26924043.pdf?src-supplier=Verical; ComponentLink3URL: https://datasheet.ciiva.com/16211/esr-16211085.pdf?src-supplier=Future+Electronics; ComponentLink3Description: https://datasheet.ciiva.com/16211/esr-16211085.pdf?src-supplier=Future+Electronics; Supplier Part Number 1: 455-1790-1-ND
footprint BM04B-SRSS-TB(LF)(SN) (JST 1.0 mm pitch connector)
pins: 1, 2, 3, 4
text: Цепь; Конт.; VCC; OUT; GND; VLED

## Разъем оптодатчика Горизонтальный
designator XP?, comment BM04B-SRSS-TB(LF)(SN)  (value not drawn)
CONN HEADER SMD 4POS 1MM; Manufacturer: JST; Number of Positions: 4; Connector Type: Male Pin; Current Rating: 1A; Contact Resistance: 40mR; Voltage Rating (AC): 50V; Insulation Resistance: 100MR; Gender: Male; Pitch: 0.039inch; Supplier 1: Digi-Key; Manufacturer Part Number: BM04B-SRSS-TB(LF)(SN); RoHS: Yes; Category: Connectors; Stock 1: 28453; Pricing 1: 1=0,63000, 10=0,59200, 100=0,45400, 500=0,39480 (USD); Mount: Surface Mount; Contact Plating: Tin,Lead,Copper; Contact Material: Copper Alloy; Color: Natural; Housing Color: Beige; Housing Material: Polyamide; Material: Polyamide; Min Operating Temperature: -25°C; Max Operating Temperature: 85°C; Number of Rows: 1; Termination: Solder; Packaging: Tape and Reel; Number of Contacts: 4; Orientation: Straight; Max Current Rating: 1A; Max Voltage Rating (AC): 50V; Max Voltage Rating (DC): 50V; Length: 6mm; Lead Pitch: 1mm; Depth: 2.9mm; Lead Free: Lead Free; REACH SVHC: No SVHC; Flammability Rating: UL94 V-0; ComponentLink1URL: https://datasheet.ciiva.com/26894/getdatasheetpartid-690899-26894827.pdf?src-supplier=Verical; ComponentLink1Description: https://datasheet.ciiva.com/26894/getdatasheetpartid-690899-26894827.pdf?src-supplier=Verical; ComponentLink2URL: https://datasheet.ciiva.com/26924/getdatasheetpartid-708793-26924043.pdf?src-supplier=Verical; ComponentLink2Description: https://datasheet.ciiva.com/26924/getdatasheetpartid-708793-26924043.pdf?src-supplier=Verical; ComponentLink3URL: https://datasheet.ciiva.com/16211/esr-16211085.pdf?src-supplier=Future+Electronics; ComponentLink3Description: https://datasheet.ciiva.com/16211/esr-16211085.pdf?src-supplier=Future+Electronics; Supplier Part Number 1: 455-1790-1-ND
footprint SM04B-SRSS-TB(LF)(SN) (JST 1.0 mm pitch connector)
pins: 1, 2, 3, 4
text: Цепь; Конт.; VCC; OUT; GND; VLED

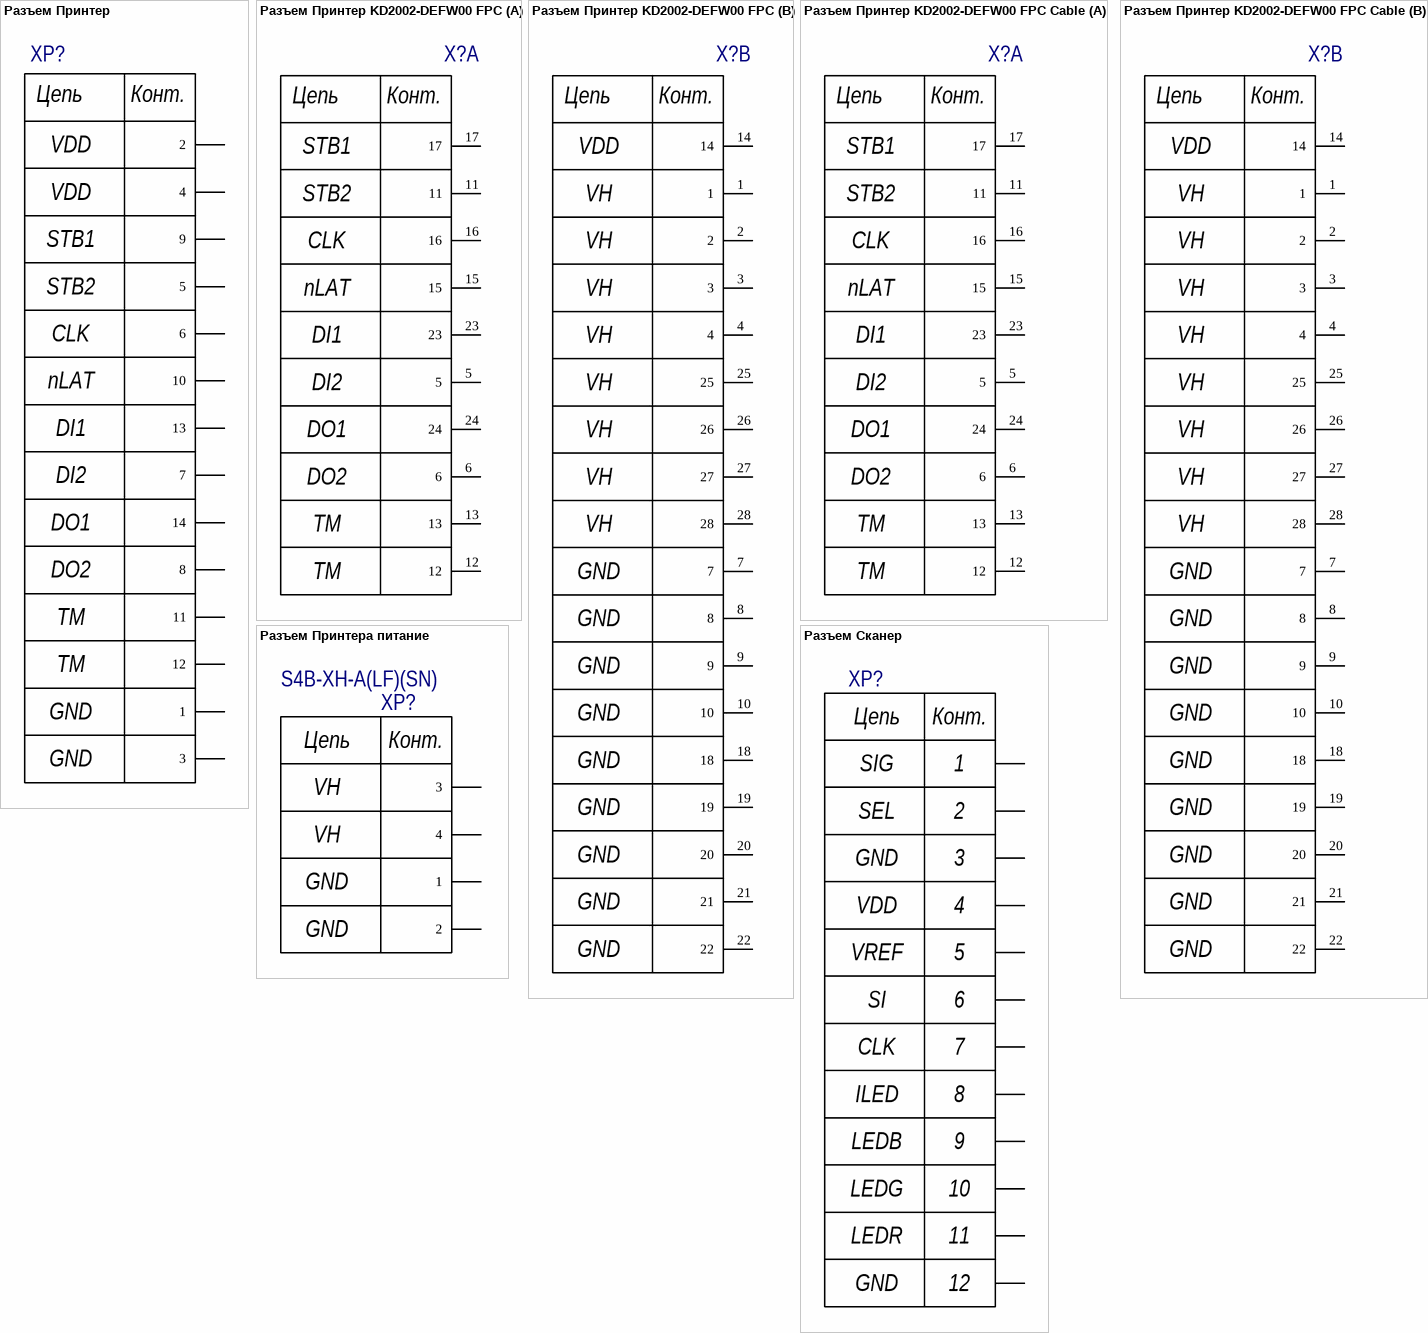
[diagram p7: symbols Разъем Принтер to Разъем Сканер]

## Разъем Принтер
designator XP?
Разъем для печатающей головы; Max Current Rating: 3A; Number of Positions: 20; Max Voltage Rating (AC): 50V; Pitch: 0.100inch; Supplier 1: Digi-Key; Min Operating Temperature: -25°C; Max Operating Temperature: 85°C; Number of Rows: 2
footprint IDC-20 (2.54 мм разъем)
footprint IDC-20 Right angle (2.54 мм разъем правый)
pins: 1 (power), 2 (power), 3 (power), 4 (power), 5, 6, 7, 8, 9, 10, 11, 12, 13, 14
text: Цепь; Конт.; VDD; STB1; STB2; CLK; nLAT; DI1; DI2; DO1; DO2; TM; GND

## Разъем Принтер KD2002-DEFW00 FPC
designator X?  (value not drawn)
Conn FPC Connector SKT 28 POS 2.5mm Solder RA Thru-Hole Tray; Manufacturer: Molex; Actuator Material: PBT,Polyester,Polybutylene; Contact Resistance: 20mR; Current Rating: 1A; Voltage Rating: 200V; Number of Positions: 28; Wire/Cable Type: Straight; Supplier 1: Digi-Key; Manufacturer Part Number: 39-53-2284; RoHS: Yes; Category: FFC / FPC; Stock 1: 1984; Pricing 1: 1=2,64000, 10=2,39800, 25=2,25120, 50=2,15340, 100=2,05550, 350=1,85971, 700=1,71290, 1050=1,46820, 2800=1,37032 (USD); Mount: Through Hole; Contact Material: Bronze; Contact Plating: Tin; Housing Color: Natural; Housing Material: Polybutylene; Min Operating Temperature: -20°C; Max Operating Temperature: 80°C; Number of Rows: 1; Packaging: Tray; Package Quantity: 350; Termination: Solder; Orientation: Right Angle; Length: 40.75mm; Pitch: 2.5mm; Depth: 9.8mm; Radiation Hardening: No; Flammability Rating: UL94 V-0; ComponentLink1URL: https://datasheet.ciiva.com/3112/0039532284-ffc-fpc-connectors-3112033.pdf?src-supplier=Avnet; ComponentLink1Description: https://datasheet.ciiva.com/3112/0039532284-ffc-fpc-connectors-3112033.pdf?src-supplier=Avnet; ComponentLink2URL: https://datasheet.ciiva.com/5137/0039532284-ffc-fpc-connectors-160323-5137138.pdf?src-supplier=Mouser; ComponentLink2Description: https://datasheet.ciiva.com/5137/0039532284-ffc-fpc-connectors-160323-5137138.pdf?src-supplier=Mouser; ComponentLink3URL: https://datasheet.ciiva.com/11745/0900766b80d5c280-11745506.pdf?src-supplier=RSComponents; ComponentLink3Description: https://datasheet.ciiva.com/11745/0900766b80d5c280-11745506.pdf?src-supplier=RSComponents; ComponentLink4URL: https://datasheet.ciiva.com/16123/413980039532284-ffc-fpc-nectors-16123787.pdf?src-supplier=Onlinecomponents.com; ComponentLink4Description: https://datasheet.ciiva.com/16123/413980039532284-ffc-fpc-nectors-16123787.pdf?src-supplier=Onlinecomponents.com; ComponentLink5URL: https://datasheet.ciiva.com/26288/66100039532284-ffc-fpc-nectors-26288859.pdf?src-supplier=Onlinecomponents.com; ComponentLink5Description: https://datasheet.ciiva.com/26288/66100039532284-ffc-fpc-nectors-26288859.pdf?src-supplier=Onlinecomponents.com; ComponentLink6URL: https://datasheet.ciiva.com/16660/0039532284-ffc-fpc-connectors-16660085.pdf?src-supplier=Avnet+Europe; ComponentLink6Description: https://datasheet.ciiva.com/16660/0039532284-ffc-fpc-connectors-16660085.pdf?src-supplier=Avnet+Europe; ComponentLink7URL: https://datasheet.ciiva.com/10366/0039532284-ffc-fpc-connectors-10366634.pdf?src-supplier=Avnet; ComponentLink7Description: https://datasheet.ciiva.com/10366/0039532284-ffc-fpc-connectors-10366634.pdf?src-supplier=Avnet; ComponentLink8URL: https://datasheet.ciiva.com/671/039532284-sd-671724.pdf?src-supplier=Digi-Key; ComponentLink8Description: https://datasheet.ciiva.com/671/039532284-sd-671724.pdf?src-supplier=Digi-Key; Supplier Part Number 1: WM3965-ND
footprint Molex 0039532284 (CONN FFC TOP 28POS 1.25MM R/A)
part A pins: 5, 6, 11, 12, 13, 15, 16, 17, 23, 24
part B pins: 1, 2, 3, 4, 7, 8, 9, 10, 14, 18, 19, 20, 21, 22, 25, 26, 27, 28
part A text: Цепь; Конт.; STB1; STB2; CLK; nLAT; DI1; DI2; DO1; DO2; TM
part B text: Цепь; Конт.; VDD; VH; GND

## Разъем Принтер KD2002-DEFW00 FPC Cable
designator X?  (value not drawn)  (no BOM)
Контакты на гибком шлейфе
footprint FPC_28x1.5
part A pins: 5, 6, 11, 12, 13, 15, 16, 17, 23, 24
part B pins: 1, 2, 3, 4, 7, 8, 9, 10, 14, 18, 19, 20, 21, 22, 25, 26, 27, 28
part A text: Цепь; Конт.; STB1; STB2; CLK; nLAT; DI1; DI2; DO1; DO2; TM
part B text: Цепь; Конт.; VDD; VH; GND

## Разъем Принтера питание
designator XP?, comment S4B-XH-A(LF)(SN)
CONN HEADER R/A 4POS 2.5MM; Manufacturer: JST; Current Rating: 3A; Voltage Rating: 250V; Contact Resistance: 20mR; Number of Positions: 4; Insulation Resistance: 1GR; Gender: Male; Connector Type: Male Pin; Wire/Cable Gauge: 22AWG; Supplier 1: Digi-Key; Manufacturer Part Number: S4B-XH-A(LF)(SN); RoHS: Yes; Category: Headers and Wire Housings; Stock 1: 9755; Pricing 1: 1=0,27000, 10=0,25700, 100=0,17850, 500=0,15100, 1000=0,12355, 5000=0,10982, 10000=0,09953 (USD); Mount: Through Hole; Contact Material: Brass; Color: Natural; Contact Plating: Tin,Lead,Copper; Housing Color: White; Housing Material: Polyamide; Min Operating Temperature: -25°C; Max Operating Temperature: 85°C; Package Quantity: 500; Number of Rows: 1; Packaging: Bulk; Voltage Rating (AC): 250V; Max Current Rating: 3A; Termination: Press-Fit; Number of Contacts: 4; Max Voltage Rating (AC): 250V; Orientation: Right Angle; Length: 12.4mm; Pitch: 2.5mm; Lead Pitch: 2.5mm; Depth: 11.5mm; REACH SVHC: No SVHC; Lead Free: Lead Free; ComponentLink1URL: https://datasheet.ciiva.com/726/exh-726400.pdf?src-supplier=Digi-Key; ComponentLink1Description: https://datasheet.ciiva.com/726/exh-726400.pdf?src-supplier=Digi-Key; ComponentLink2URL: https://datasheet.ciiva.com/26924/getdatasheetpartid-449045-26924078.pdf?src-supplier=Verical; ComponentLink2Description: https://datasheet.ciiva.com/26924/getdatasheetpartid-449045-26924078.pdf?src-supplier=Verical; ComponentLink3URL: https://datasheet.ciiva.com/8052/5448-8052236.pdf?src-supplier=Element14; ComponentLink3Description: https://datasheet.ciiva.com/8052/5448-8052236.pdf?src-supplier=Element14; Supplier Part Number 1: 455-2243-ND
footprint S4B-XH-A
pins: 1, 2, 3, 4
text: Цепь; Конт.; VH; GND

## Разъем Сканер
designator XP?, comment BM12B-SRSS-TB(LF)(SN)  (value not drawn)
12 Positions Header, Shrouded Connector 0.039" (1.00mm) Surface Mount Tin; Manufacturer: JST; Number of Positions: 12; Connector Type: Male Pin; Pitch: 0.039inch; Supplier 1: Digi-Key; Manufacturer Part Number: BM12B-SRSS-TB(LF)(SN); RoHS: Yes; Category: Connectors; Stock 1: 7820; Pricing 1: 1=1,20000, 10=1,05600, 100=0,91070, 500=0,74512 (USD); Mount: Surface Mount; Color: Natural; Contact Plating: Tin; Contact Material: Copper Alloy; Housing Color: Natural; Housing Material: Nylon; Number of Rows: 1; Packaging: Tape and Reel; Termination: Solder; Number of Contacts: 12; Lead Free: Lead Free; ComponentLink1URL: https://datasheet.ciiva.com/11752/0900766b8063507b-11752074.pdf?src-supplier=RSComponents; ComponentLink1Description: https://datasheet.ciiva.com/11752/0900766b8063507b-11752074.pdf?src-supplier=RSComponents; ComponentLink2URL: https://datasheet.ciiva.com/16420/bm12b-srss-tblfsn-16420661.pdf?src-supplier=Future+Electronics; ComponentLink2Description: https://datasheet.ciiva.com/16420/bm12b-srss-tblfsn-16420661.pdf?src-supplier=Future+Electronics; ComponentLink3URL: https://datasheet.ciiva.com/730/esr-730620.pdf?src-supplier=Digi-Key; ComponentLink3Description: https://datasheet.ciiva.com/730/esr-730620.pdf?src-supplier=Digi-Key; ComponentLink4URL: https://datasheet.ciiva.com/712/esr-712686.pdf?src-supplier=Digi-Key; ComponentLink4Description: https://datasheet.ciiva.com/712/esr-712686.pdf?src-supplier=Digi-Key; ComponentLink5URL: https://datasheet.ciiva.com/712/esr-712687.pdf?src-supplier=Digi-Key; ComponentLink5Description: https://datasheet.ciiva.com/712/esr-712687.pdf?src-supplier=Digi-Key; Supplier Part Number 1: 455-1798-1-ND
footprint BM12B-SRSS-TB(LF)(SN) (JST 1.0 mm pitch connector)
pins: 1 SIG, 2 SEL, 3 GND, 4 VDD, 5 VREF, 6 SI, 7 CLK, 8 ILED, 9 LEDB, 10 LEDG, 11 LEDR, 12 GND
text: Цепь; Конт.

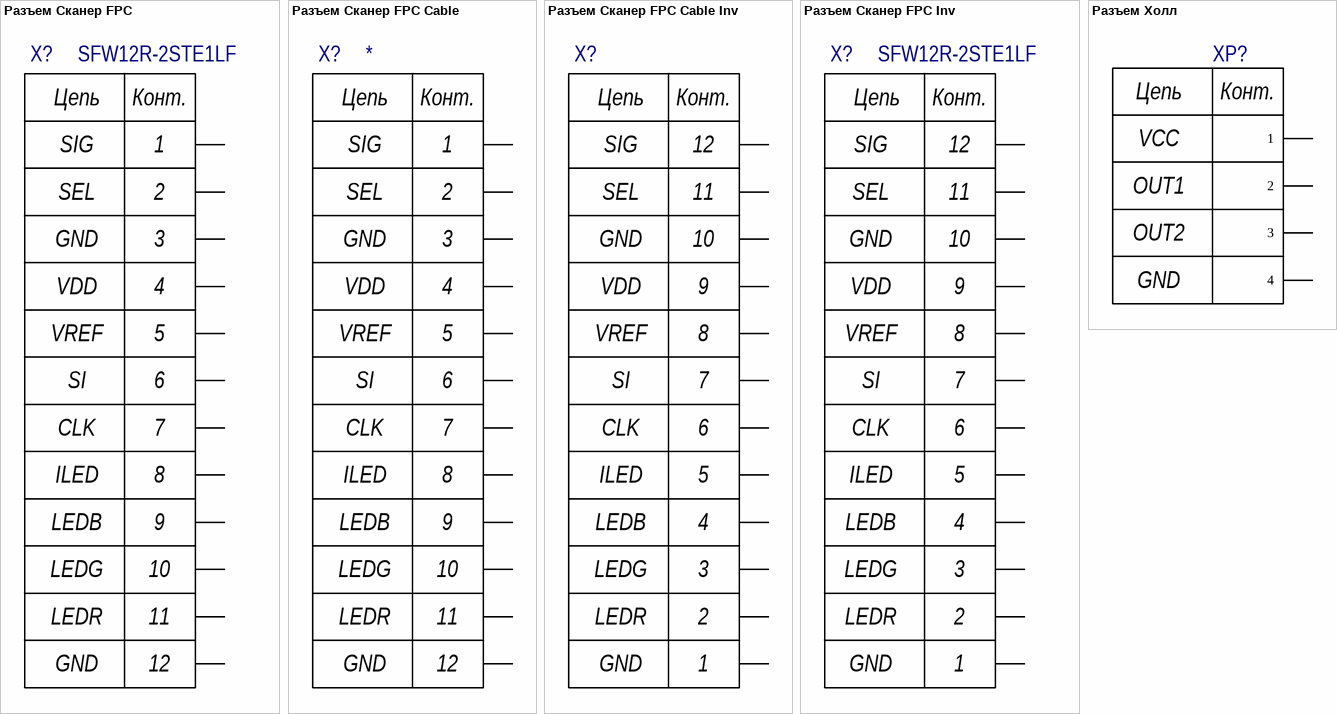
[diagram p8: symbols Разъем Сканер FPC to Разъем Холл]

## Разъем Сканер FPC
designator X?, comment SFW12R-2STE1LF
CONN FFC FPC TOP 12POS 1MM R/A; Manufacturer: Amphenol FCI; Actuator Material: Glass,Polyphenylene; Number of Contacts: 12; Current Rating: 1A; Voltage Rating: 100V; Contact Resistance: 30mR; Insulation Resistance: 500MR; Gender: Receptacle; Wire/Cable Type: Straight; Supplier 1: Digi-Key; Manufacturer Part Number: SFW12R-2STE1LF; RoHS: Yes; Category: FFC / FPC; Stock 1: 3928; Pricing 1: 1=0,91000, 10=0,80400, 25=0,75640, 50=0,72480, 100=0,69330, 250=0,63032, 500=0,56728, 1000=0,50424 (USD); Mount: Surface Mount; Contact Material: Bronze; Contact Plating: Tin; Housing Color: Brown; Housing Material: Polyphenylene; Min Operating Temperature: -55°C; Max Operating Temperature: 105°C; Number of Rows: 1; Termination: Solder; Orientation: Right Angle; Packaging: Tape and Reel; Package Quantity: 2000; Voltage Rating (AC): 100V; Number of Positions: 12; Contact Location: Top; Max Voltage Rating (AC): 100V; Max Voltage Rating (DC): 100V; Length: 17.8mm; Pitch: 1mm; Depth: 6mm; Width: 5.5mm; Radiation Hardening: No; REACH SVHC: No SVHC; Lead Free: Lead Free; Flammability Rating: UL94 V-0; ComponentLink1URL: https://datasheet.ciiva.com/8038/1651204-8038066.pdf?src-supplier=Element14; ComponentLink1Description: https://datasheet.ciiva.com/8038/1651204-8038066.pdf?src-supplier=Element14; ComponentLink2URL: https://datasheet.ciiva.com/670/sfw12lf-670182.pdf?src-supplier=Digi-Key; ComponentLink2Description: https://datasheet.ciiva.com/670/sfw12lf-670182.pdf?src-supplier=Digi-Key; ComponentLink3URL: https://datasheet.ciiva.com/3112/sfw12lf-3112502.pdf?src-supplier=Avnet; ComponentLink3Description: https://datasheet.ciiva.com/3112/sfw12lf-3112502.pdf?src-supplier=Avnet; ComponentLink4URL: https://datasheet.ciiva.com/670/sfw12lf-670183.pdf?src-supplier=Digi-Key; ComponentLink4Description: https://datasheet.ciiva.com/670/sfw12lf-670183.pdf?src-supplier=Digi-Key; ComponentLink5URL: https://datasheet.ciiva.com/16659/sfw12lf-16659559.pdf?src-supplier=Avnet+Europe; ComponentLink5Description: https://datasheet.ciiva.com/16659/sfw12lf-16659559.pdf?src-supplier=Avnet+Europe; ComponentLink6URL: https://datasheet.ciiva.com/670/sfw12lf-670184.pdf?src-supplier=Digi-Key; ComponentLink6Description: https://datasheet.ciiva.com/670/sfw12lf-670184.pdf?src-supplier=Digi-Key; ComponentLink7URL: https://datasheet.ciiva.com/5137/sfw12lf-5137627.pdf?src-supplier=Mouser; ComponentLink7Description: https://datasheet.ciiva.com/5137/sfw12lf-5137627.pdf?src-supplier=Mouser; ComponentLink8URL: https://datasheet.ciiva.com/15176/getdatasheetpartid-71252-15176315.pdf?src-supplier=Verical; ComponentLink8Description: https://datasheet.ciiva.com/15176/getdatasheetpartid-71252-15176315.pdf?src-supplier=Verical; Supplier Part Number 1: 609-1901-1-ND
footprint SFW12R-2STE1LF
pins: 1 SIG, 2 SEL, 3 GND, 4 VDD, 5 VREF, 6 SI, 7 CLK, 8 ILED, 9 LEDB, 10 LEDG, 11 LEDR, 12 GND
text: Цепь; Конт.

## Разъем Сканер FPC Cable
designator X?  (no BOM)
Category: FFC / FPC
footprint FPC-1x12 (FPC cable 1 mm pitch, 12 pos)
pins: 1 SIG, 2 SEL, 3 GND, 4 VDD, 5 VREF, 6 SI, 7 CLK, 8 ILED, 9 LEDB, 10 LEDG, 11 LEDR, 12 GND
text: Цепь; Конт.

## Разъем Сканер FPC Cable Inv
designator X?  (value not drawn)  (no BOM)
Category: FFC / FPC
footprint FPC-1x12 (FPC cable 1 mm pitch, 12 pos)
pins: 1 GND, 2 LEDR, 3 LEDG, 4 LEDB, 5 ILED, 6 CLK, 7 SI, 8 VREF, 9 VDD, 10 GND, 11 SEL, 12 SIG
text: Цепь; Конт.

## Разъем Сканер FPC Inv
designator X?, comment SFW12R-2STE1LF
CONN FFC FPC TOP 12POS 1MM R/A; Manufacturer: Amphenol FCI; Actuator Material: Glass,Polyphenylene; Number of Contacts: 12; Current Rating: 1A; Voltage Rating: 100V; Contact Resistance: 30mR; Insulation Resistance: 500MR; Gender: Receptacle; Wire/Cable Type: Straight; Supplier 1: Digi-Key; Manufacturer Part Number: SFW12R-2STE1LF; RoHS: Yes; Category: FFC / FPC; Stock 1: 3928; Pricing 1: 1=0,91000, 10=0,80400, 25=0,75640, 50=0,72480, 100=0,69330, 250=0,63032, 500=0,56728, 1000=0,50424 (USD); Mount: Surface Mount; Contact Material: Bronze; Contact Plating: Tin; Housing Color: Brown; Housing Material: Polyphenylene; Min Operating Temperature: -55°C; Max Operating Temperature: 105°C; Number of Rows: 1; Termination: Solder; Orientation: Right Angle; Packaging: Tape and Reel; Package Quantity: 2000; Voltage Rating (AC): 100V; Number of Positions: 12; Contact Location: Top; Max Voltage Rating (AC): 100V; Max Voltage Rating (DC): 100V; Length: 17.8mm; Pitch: 1mm; Depth: 6mm; Width: 5.5mm; Radiation Hardening: No; REACH SVHC: No SVHC; Lead Free: Lead Free; Flammability Rating: UL94 V-0; ComponentLink1URL: https://datasheet.ciiva.com/8038/1651204-8038066.pdf?src-supplier=Element14; ComponentLink1Description: https://datasheet.ciiva.com/8038/1651204-8038066.pdf?src-supplier=Element14; ComponentLink2URL: https://datasheet.ciiva.com/670/sfw12lf-670182.pdf?src-supplier=Digi-Key; ComponentLink2Description: https://datasheet.ciiva.com/670/sfw12lf-670182.pdf?src-supplier=Digi-Key; ComponentLink3URL: https://datasheet.ciiva.com/3112/sfw12lf-3112502.pdf?src-supplier=Avnet; ComponentLink3Description: https://datasheet.ciiva.com/3112/sfw12lf-3112502.pdf?src-supplier=Avnet; ComponentLink4URL: https://datasheet.ciiva.com/670/sfw12lf-670183.pdf?src-supplier=Digi-Key; ComponentLink4Description: https://datasheet.ciiva.com/670/sfw12lf-670183.pdf?src-supplier=Digi-Key; ComponentLink5URL: https://datasheet.ciiva.com/16659/sfw12lf-16659559.pdf?src-supplier=Avnet+Europe; ComponentLink5Description: https://datasheet.ciiva.com/16659/sfw12lf-16659559.pdf?src-supplier=Avnet+Europe; ComponentLink6URL: https://datasheet.ciiva.com/670/sfw12lf-670184.pdf?src-supplier=Digi-Key; ComponentLink6Description: https://datasheet.ciiva.com/670/sfw12lf-670184.pdf?src-supplier=Digi-Key; ComponentLink7URL: https://datasheet.ciiva.com/5137/sfw12lf-5137627.pdf?src-supplier=Mouser; ComponentLink7Description: https://datasheet.ciiva.com/5137/sfw12lf-5137627.pdf?src-supplier=Mouser; ComponentLink8URL: https://datasheet.ciiva.com/15176/getdatasheetpartid-71252-15176315.pdf?src-supplier=Verical; ComponentLink8Description: https://datasheet.ciiva.com/15176/getdatasheetpartid-71252-15176315.pdf?src-supplier=Verical; Supplier Part Number 1: 609-1901-1-ND
footprint SFW12R-2STE1LF
pins: 1 SIG, 2 SEL, 3 GND, 4 VDD, 5 VREF, 6 SI, 7 CLK, 8 ILED, 9 LEDB, 10 LEDG, 11 LEDR, 12 GND
text: Цепь; Конт.

## Разъем Холл
designator XP?, comment BM04B-SRSS-TB(LF)(SN)  (value not drawn)
CONN HEADER SMD 4POS 1MM; Manufacturer: JST; Number of Positions: 4; Connector Type: Male Pin; Current Rating: 1A; Contact Resistance: 40mR; Voltage Rating (AC): 50V; Insulation Resistance: 100MR; Gender: Male; Pitch: 0.039inch; Supplier 1: Digi-Key; Manufacturer Part Number: BM04B-SRSS-TB(LF)(SN); RoHS: Yes; Category: Connectors; Stock 1: 28453; Pricing 1: 1=0,63000, 10=0,59200, 100=0,45400, 500=0,39480 (USD); Mount: Surface Mount; Contact Plating: Tin,Lead,Copper; Contact Material: Copper Alloy; Color: Natural; Housing Color: Beige; Housing Material: Polyamide; Material: Polyamide; Min Operating Temperature: -25°C; Max Operating Temperature: 85°C; Number of Rows: 1; Termination: Solder; Packaging: Tape and Reel; Number of Contacts: 4; Orientation: Straight; Max Current Rating: 1A; Max Voltage Rating (AC): 50V; Max Voltage Rating (DC): 50V; Length: 6mm; Lead Pitch: 1mm; Depth: 2.9mm; Lead Free: Lead Free; REACH SVHC: No SVHC; Flammability Rating: UL94 V-0; ComponentLink1URL: https://datasheet.ciiva.com/26894/getdatasheetpartid-690899-26894827.pdf?src-supplier=Verical; ComponentLink1Description: https://datasheet.ciiva.com/26894/getdatasheetpartid-690899-26894827.pdf?src-supplier=Verical; ComponentLink2URL: https://datasheet.ciiva.com/26924/getdatasheetpartid-708793-26924043.pdf?src-supplier=Verical; ComponentLink2Description: https://datasheet.ciiva.com/26924/getdatasheetpartid-708793-26924043.pdf?src-supplier=Verical; ComponentLink3URL: https://datasheet.ciiva.com/16211/esr-16211085.pdf?src-supplier=Future+Electronics; ComponentLink3Description: https://datasheet.ciiva.com/16211/esr-16211085.pdf?src-supplier=Future+Electronics; Supplier Part Number 1: 455-1790-1-ND
footprint BM04B-SRSS-TB(LF)(SN) (JST 1.0 mm pitch connector)
pins: 1, 2, 3, 4
text: Цепь; Конт.; VCC; OUT1; OUT2; GND